# Altium schematic symbol library OKmeSchLibrary.SchLib: 194 symbols (part 1 of 2)
Pins are listed as number, name and electrical type; pins without a type are passive.

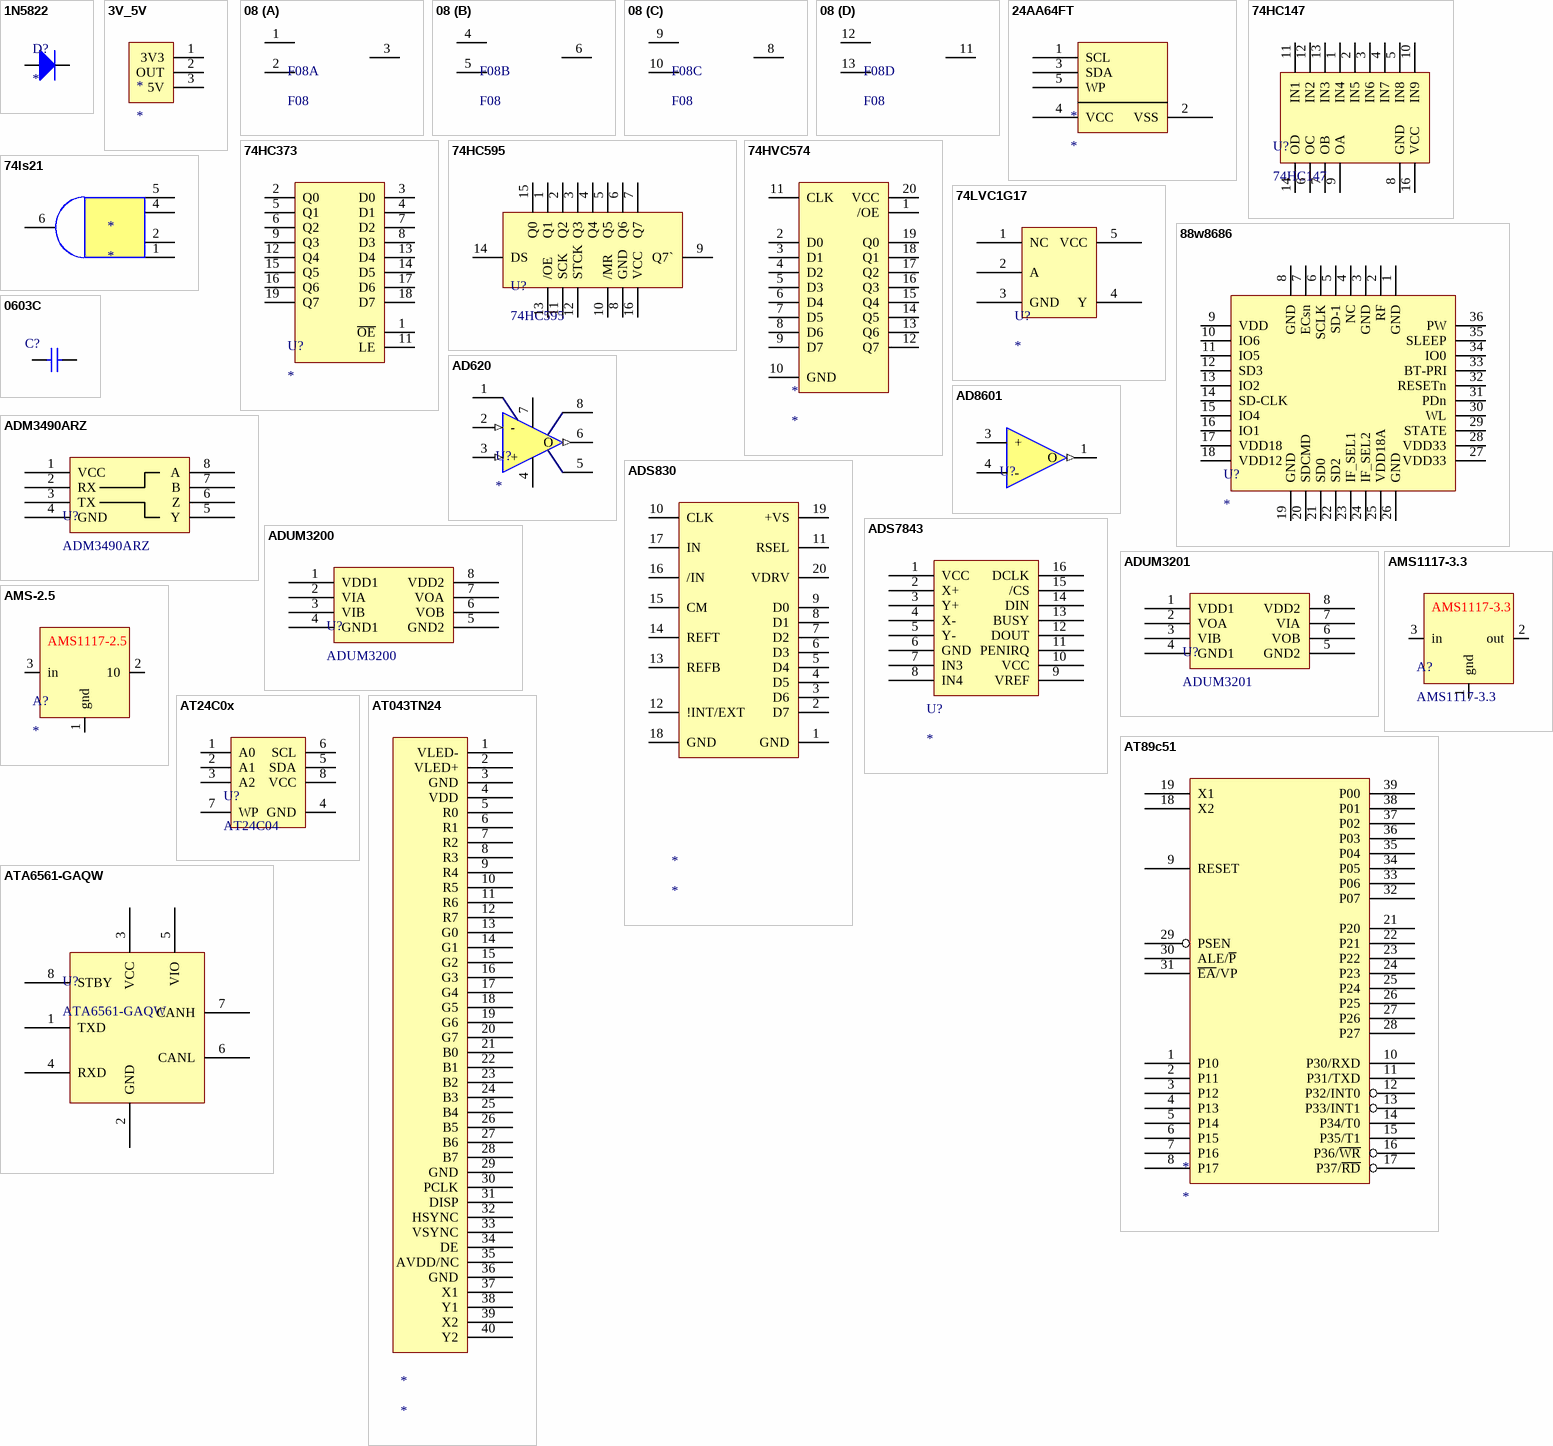
[diagram p0: symbols 1N5822 to ATA6561-GAQW]

## 1N5822
designator D?
footprint 1N5822
pins: 1 A, 2 K

## 3V_5V
designator *
footprint head*3
pins: 1 3V3, 2 OUT, 3 5V

## 08
designator F08, comment F08  (no BOM)
footprint 08
part A pins: 1, 2, 3, 7 hidden to GND, 14 hidden to VDD
part B pins: 4, 5, 6
part C pins: 8, 9, 10
part D pins: 11, 12, 13

## 24AA64FT
designator *
pins: 1 SCL, 2 VSS, 3 SDA, 4 VCC, 5 WP

## 74HC147
designator U?
footprint SOP-16
pins: 1 IN4, 2 IN5, 3 IN6, 4 IN7, 5 IN8, 6 OC, 7 OB, 8 GND, 9 OA, 10 IN9, 11 IN1, 12 IN2, 13 IN3, 14 OD, 15 NC hidden, 16 VCC

## 74HC373
designator U?
pins: 1 ~{OE}, 2 Q0, 3 D0, 4 D1, 5 Q1, 6 Q2, 7 D2, 8 D3, 9 Q3, 11 LE, 12 Q4, 13 D4, 14 D5, 15 Q5, 16 Q6, 17 D6, 18 D7, 19 Q7

## 74HC595
designator U?
footprint SOP-16
pins: 1 Q1, 2 Q2, 3 Q3, 4 Q4, 5 Q5, 6 Q6, 7 Q7, 8 GND, 9 Q7`, 10 /MR, 11 SCK, 12 STCK, 13 /OE, 14 DS, 15 Q0, 16 VCC

## 74HVC574
designator *
pins: 1 /OE, 2 D0, 3 D1, 4 D2, 5 D3, 6 D4, 7 D5, 8 D6, 9 D7, 10 GND, 11 CLK, 12 Q7, 13 Q6, 14 Q5, 15 Q4, 16 Q3, 17 Q2, 18 Q1, 19 Q0, 20 VCC

## 74ls21
designator *
pins: 1, 2, 4, 5, 6

## 74LVC1G17
designator U?
footprint SOT23-5
pins: 1 NC, 2 A, 3 GND, 4 Y, 5 VCC

## 88w8686
designator U?
footprint 88w8686
pins: 1 GND, 2 RF, 3 GND, 4 NC, 5 SD-1, 6 SCLK, 7 ECsn, 8 GND, 9 VDD, 10 IO6, 11 IO5, 12 SD3, 13 IO2, 14 SD-CLK, 15 IO4, 16 IO1, 17 VDD18, 18 VDD12, 19 GND, 20 SDCMD, 21 SD0, 22 SD2, 23 IF_SEL1, 24 IF_SEL2, 25 VDD18A, 26 GND, 27 VDD33, 28 VDD33, 29 STATE, 30 WL, 31 PDn, 32 RESETn, 33 BT-PRI, 34 IO0, 35 SLEEP, 36 PW

## 0603C
designator C?  (value not drawn)
footprint 0603C
pins: 1, 2

## AD620
designator U?
pins: 1, 2 - (in), 3 + (in), 4, 5, 6 O (out), 7, 8

## AD8601
designator U?  (value not drawn)
footprint SP6201
pins: 1 O (out), 2 - hidden to GND, 3 +, 4 -, 5 V+ hidden to 4-20-3V3

## ADM3490ARZ
designator U?
pins: 1 VCC, 2 RX, 3 TX, 4 GND, 5 Y, 6 Z, 7 B, 8 A

## ADS830
designator *
pins: 1 GND, 2 D7, 3 D6, 4 D5, 5 D4, 6 D3, 7 D2, 8 D1, 9 D0, 10 CLK, 11 RSEL, 12 !INT/EXT, 13 REFB, 14 REFT, 15 CM, 16 /IN, 17 IN, 18 GND, 19 +VS, 20 VDRV

## ADS7843
designator U?
footprint XPT2046
pins: 1 VCC, 2 X+, 3 Y+, 4 X-, 5 Y-, 6 GND, 7 IN3, 8 IN4, 9 VREF, 10 VCC, 11 PENIRQ, 12 DOUT, 13 BUSY, 14 DIN, 15 /CS, 16 DCLK

## ADUM3200
designator U?
pins: 1 VDD1, 2 VIA, 3 VIB, 4 GND1, 5 GND2, 6 VOB, 7 VOA, 8 VDD2

## ADUM3201
designator U?
pins: 1 VDD1, 2 VOA, 3 VIB, 4 GND1, 5 GND2, 6 VOB, 7 VIA, 8 VDD2

## AMS1117-3.3
designator A?
电源芯片
footprint SOT223
pins: 1 gnd, 2 out, 3 in

## AMS-2.5
designator A?
footprint AMS
pins: 1 gnd, 2 10, 3 in
text: AMS1117-2.5

## AT24C0x
designator U?, comment AT24C04
footprint SOP-8
pins: 1 A0, 2 A1, 3 A2, 4 GND, 5 SDA, 6 SCL, 7 WP, 8 VCC

## AT043TN24
designator *
pins: 1 VLED-, 2 VLED+, 3 GND, 4 VDD, 5 R0, 6 R1, 7 R2, 8 R3, 9 R4, 10 R5, 11 R6, 12 R7, 13 G0, 14 G1, 15 G2, 16 G3, 17 G4, 18 G5, 19 G6, 20 G7, 21 B0, 22 B1, 23 B2, 24 B3, 25 B4, 26 B5, 27 B6, 28 B7, 29 GND, 30 PCLK, 31 DISP, 32 HSYNC, 33 VSYNC, 34 DE, 35 AVDD/NC, 36 GND, 37 X1, 38 Y1, 39 X2, 40 Y2

## AT89c51
designator *
pins: 1 P10, 2 P11, 3 P12, 4 P13, 5 P14, 6 P15, 7 P16, 8 P17, 9 RESET, 10 P30/RXD, 11 P31/TXD, 12 P32/INT0, 13 P33/INT1, 14 P34/T0, 15 P35/T1, 16 P36/~{WR}, 17 P37/~{RD}, 18 X2, 19 X1, 21 P20, 22 P21, 23 P22, 24 P23, 25 P24, 26 P25, 27 P26, 28 P27, 29 PSEN, 30 ALE/~{P}, 31 ~{EA}/VP, 32 P07, 33 P06, 34 P05, 35 P04, 36 P03, 37 P02, 38 P01, 39 P00

## ATA6561-GAQW
designator U?
pins: 1 TXD, 2 GND, 3 VCC, 4 RXD, 5 VIO, 6 CANL, 7 CANH, 8 STBY

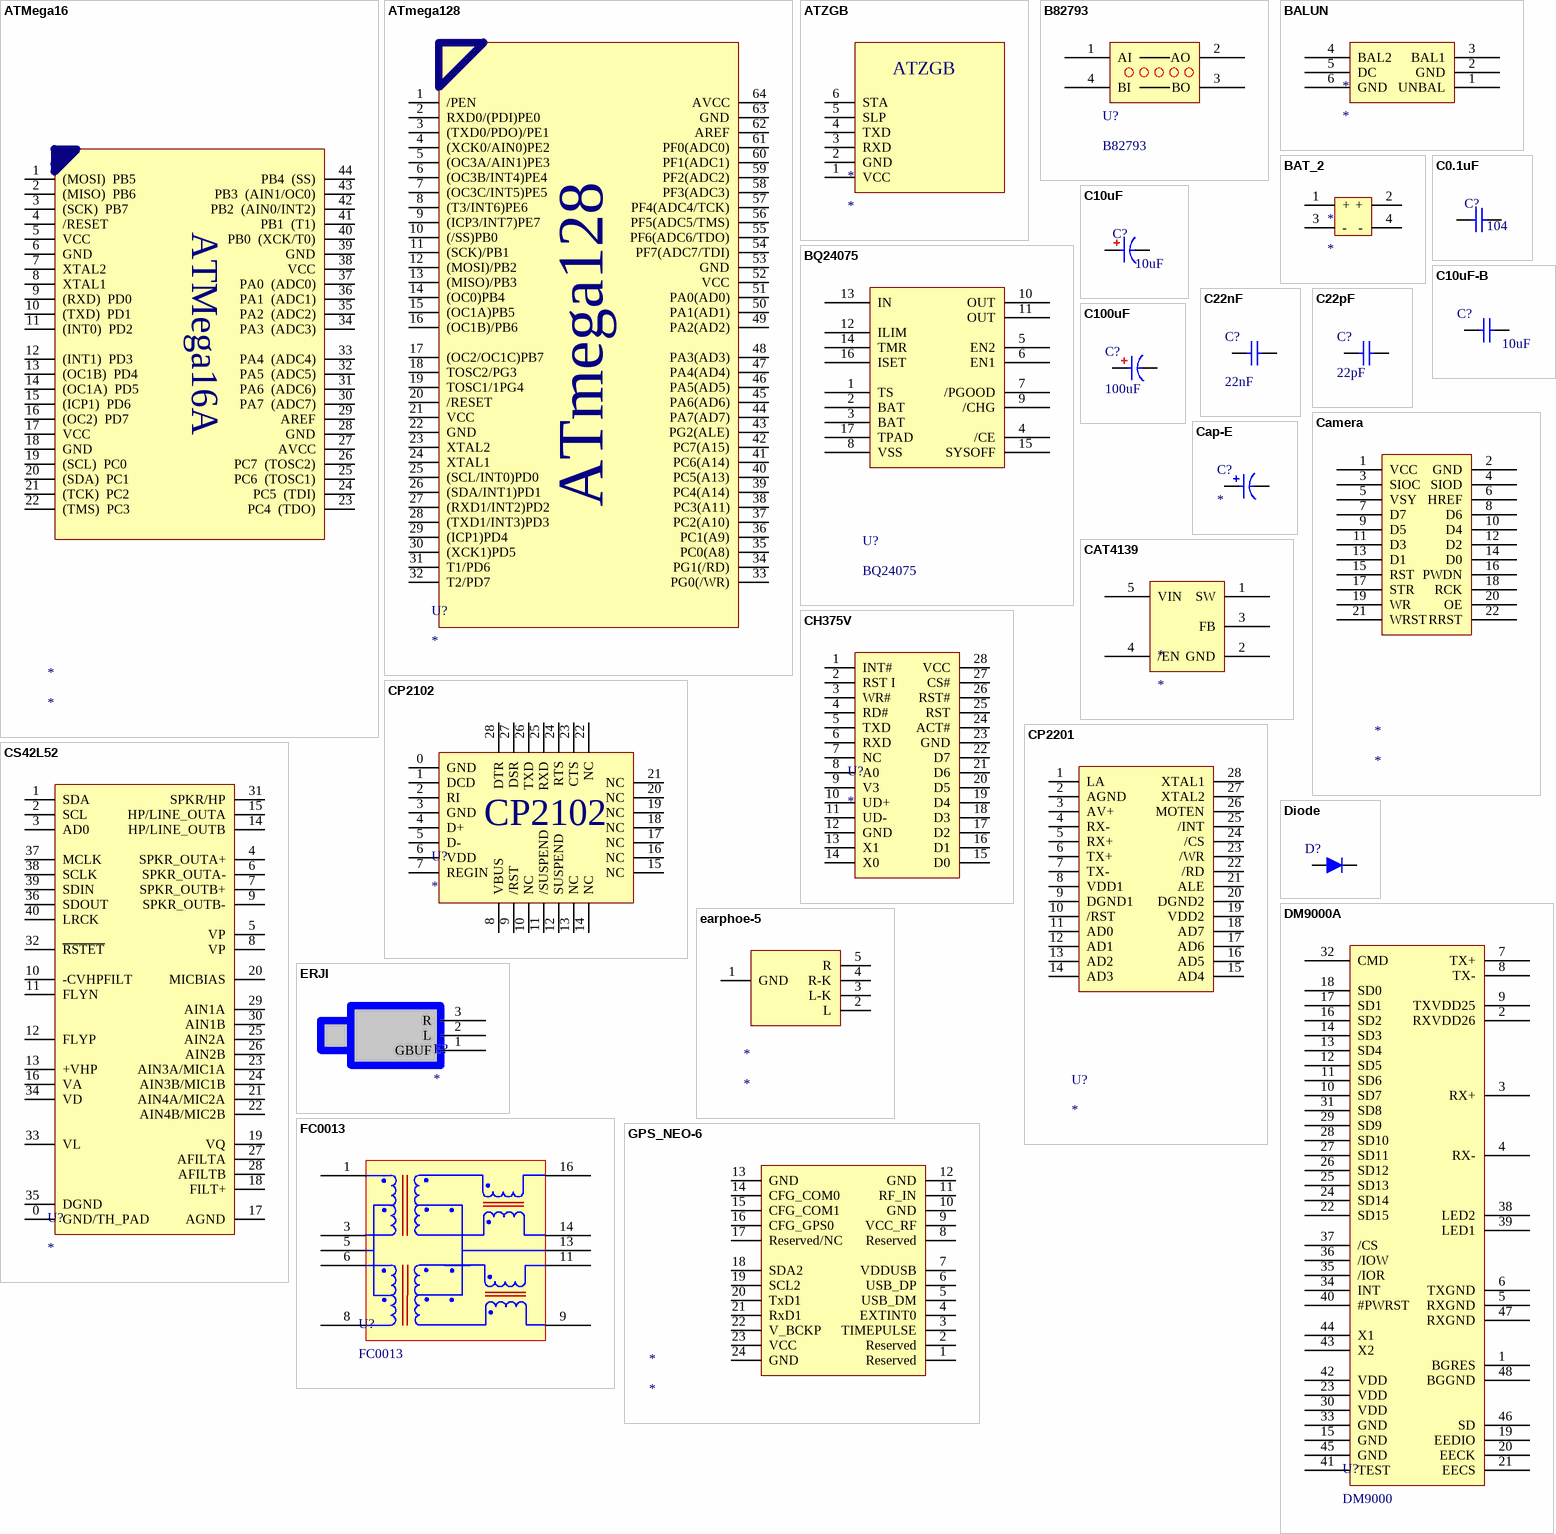
[diagram p1: symbols ATMega16 to GPS_NEO-6]

## ATMega16
designator *
footprint ATMega16
pins: 1 (MOSI)  PB5, 2 (MISO)  PB6, 3 (SCK)  PB7, 4 /RESET, 5 VCC, 6 GND, 7 XTAL2, 8 XTAL1, 9 (RXD)  PD0, 10 (TXD)  PD1, 11 (INT0)  PD2, 12 (INT1)  PD3, 13 (OC1B)  PD4, 14 (OC1A)  PD5, 15 (ICP1)  PD6, 16 (OC2)  PD7, 17 VCC, 18 GND, 19 (SCL)  PC0, 20 (SDA)  PC1, 21 (TCK)  PC2, 22 (TMS)  PC3, 23 PC4  (TDO), 24 PC5  (TDI), 25 PC6  (TOSC1), 26 PC7  (TOSC2), 27 AVCC, 28 GND, 29 AREF, 30 PA7  (ADC7), 31 PA6  (ADC6), 32 PA5  (ADC5), 33 PA4  (ADC4), 34 PA3  (ADC3), 35 PA2  (ADC2), 36 PA1  (ADC1), 37 PA0  (ADC0), 38 VCC, 39 GND, 40 PB0  (XCK/T0), 41 PB1  (T1), 42 PB2  (AIN0/INT2), 43 PB3  (AIN1/OC0), 44 PB4  (SS)
text: ATMega16A

## ATmega128
designator U?
footprint ATmega128 (Footprint not found)
pins: 1 /PEN, 2 RXD0/(PDI)PE0, 3 (TXD0/PDO)/PE1, 4 (XCK0/AIN0)PE2, 5 (OC3A/AIN1)PE3, 6 (OC3B/INT4)PE4, 7 (OC3C/INT5)PE5, 8 (T3/INT6)PE6, 9 (ICP3/INT7)PE7, 10 (/SS)PB0, 11 (SCK)/PB1, 12 (MOSI)/PB2, 13 (MISO)/PB3, 14 (OC0)PB4, 15 (OC1A)PB5, 16 (OC1B)/PB6, 17 (OC2/OC1C)PB7, 18 TOSC2/PG3, 19 TOSC1/1PG4, 20 /RESET, 21 VCC, 22 GND, 23 XTAL2, 24 XTAL1, 25 (SCL/INT0)PD0, 26 (SDA/INT1)PD1, 27 (RXD1/INT2)PD2, 28 (TXD1/INT3)PD3, 29 (ICP1)PD4, 30 (XCK1)PD5, 31 T1/PD6, 32 T2/PD7, 33 PG0(/WR), 34 PG1(/RD), 35 PC0(A8), 36 PC1(A9), 37 PC2(A10), 38 PC3(A11), 39 PC4(A14), 40 PC5(A13), 41 PC6(A14), 42 PC7(A15), 43 PG2(ALE), 44 PA7(AD7), 45 PA6(AD6), 46 PA5(AD5), 47 PA4(AD4), 48 PA3(AD3), 49 PA2(AD2), 50 PA1(AD1), 51 PA0(AD0), 52 VCC, 53 GND, 54 PF7(ADC7/TDI), 55 PF6(ADC6/TDO), 56 PF5(ADC5/TMS), 57 PF4(ADC4/TCK), 58 PF3(ADC3), 59 PF2(ADC2), 60 PF1(ADC1), 61 PF0(ADC0), 62 AREF, 63 GND, 64 AVCC

## ATZGB
designator *
pins: 1 VCC, 2 GND, 3 RXD, 4 TXD, 5 SLP, 6 STA

## B82793
designator U?
pins: 1 AI, 2 AO, 3 BO, 4 BI

## BALUN
designator *
pins: 1 UNBAL, 2 GND, 3 BAL1, 4 BAL2, 5 DC, 6 GND

## BAT_2
designator *
pins: 1 +, 2 +, 3 -, 4 -

## BQ24075
designator U?
footprint QFN16
pins: 1 TS, 2 BAT, 3 BAT, 4 /CE, 5 EN2, 6 EN1, 7 /PGOOD, 8 VSS, 9 /CHG, 10 OUT, 11 OUT, 12 ILIM, 13 IN, 14 TMR, 15 SYSOFF, 16 ISET, 17 TPAD

## C0.1uF
designator C?, comment C104  (value not drawn)
贴片电容
footprint 0603C
pins: 1, 2
text: 104

## C10uF
designator C?, comment 10uF
贴片电容
footprint CAP-T-3216
pins: 1, 2

## C10uF-B
designator C?  (value not drawn)
footprint 0603R
pins: 1, 2
text: 10uF

## C22nF
designator C?  (value not drawn)
footprint 0603R
pins: 1, 2
text: 22nF

## C22pF
designator C?  (value not drawn)
贴片电容
footprint 0603R
pins: 1, 2
text: 22pF

## C100uF
designator C?  (value not drawn)
贴片电容
footprint Cap-T
pins: 1, 2
text: 100uF

## Camera
designator *
footprint Camera
pins: 1 VCC, 2 GND, 3 SIOC, 4 SIOD, 5 VSY, 6 HREF, 7 D7, 8 D6, 9 D5, 10 D4, 11 D3, 12 D2, 13 D1, 14 D0, 15 RST, 16 PWDN, 17 STR, 18 RCK, 19 WR, 20 OE, 21 WRST, 22 RRST

## Cap-E
designator C?
footprint Cap-E
pins: 1, 2

## CAT4139
designator *
footprint SOT23-5
pins: 1 SW, 2 GND, 3 FB, 4 /EN, 5 VIN

## CH375V
designator U?
footprint SOP28 (Footprint not found)
pins: 1 INT#, 2 RST I, 3 WR#, 4 RD#, 5 TXD, 6 RXD, 7 NC, 8 A0, 9 V3, 10 UD+, 11 UD-, 12 GND, 13 X1, 14 X0, 15 D0, 16 D1, 17 D2, 18 D3, 19 D4, 20 D5, 21 D6, 22 D7, 23 GND, 24 ACT#, 25 RST, 26 RST#, 27 CS#, 28 VCC

## CP2102
designator U?
footprint CP2102
pins: 0 GND , 1 DCD, 2 RI, 3 GND, 4 D+, 5 D-, 6 VDD, 7 REGIN, 8 VBUS, 9 /RST, 10 NC, 11 /SUSPEND, 12 SUSPEND, 13 NC, 14 NC, 15 NC, 16 NC, 17 NC, 18 NC, 19 NC, 20 NC, 21 NC, 22 NC, 23 CTS, 24 RTS, 25 RXD, 26 TXD, 27 DSR, 28 DTR

## CP2201
designator U?
footprint QFN28 (Footprint not found)
pins: 1 LA, 2 AGND, 3 AV+, 4 RX-, 5 RX+, 6 TX+, 7 TX-, 8 VDD1, 9 DGND1, 10 /RST, 11 AD0, 12 AD1, 13 AD2, 14 AD3, 15 AD4, 16 AD5, 17 AD6, 18 AD7, 19 VDD2, 20 DGND2, 21 ALE, 22 /RD, 23 /WR, 24 /CS, 25 /INT, 26 MOTEN, 27 XTAL2, 28 XTAL1

## CS42L52
designator U?
footprint QFN40 (Footprint not found)
pins: 0 GND/TH_PAD, 1 SDA, 2 SCL, 3 AD0, 4 SPKR_OUTA+, 5 VP, 6 SPKR_OUTA-, 7 SPKR_OUTB+, 8 VP, 9 SPKR_OUTB-, 10 -CVHPFILT, 11 FLYN, 12 FLYP, 13 +VHP, 14 HP/LINE_OUTB, 15 HP/LINE_OUTA, 16 VA, 17 AGND, 18 FILT+, 19 VQ, 20 MICBIAS, 21 AIN4A/MIC2A, 22 AIN4B/MIC2B, 23 AIN3A/MIC1A, 24 AIN3B/MIC1B, 25 AIN2A, 26 AIN2B, 27 AFILTA, 28 AFILTB, 29 AIN1A, 30 AIN1B, 31 SPKR/HP, 32 ~{RSTET}, 33 VL, 34 VD, 35 DGND, 36 SDOUT, 37 MCLK, 38 SCLK, 39 SDIN, 40 LRCK

## Diode
designator D?  (value not drawn)
footprint 0805 - D
pins: 1 A, 2 K

## DM9000A
designator U?, comment DM9000
pins: 1 BGRES, 2 RXVDD26, 3 RX+, 4 RX-, 5 RXGND, 6 TXGND, 7 TX+, 8 TX-, 9 TXVDD25, 10 SD7, 11 SD6, 12 SD5, 13 SD4, 14 SD3, 15 GND, 16 SD2, 17 SD1, 18 SD0, 19 EEDIO, 20 EECK, 21 EECS, 22 SD15, 23 VDD, 24 SD14, 25 SD13, 26 SD12, 27 SD11, 28 SD10, 29 SD9, 30 VDD, 31 SD8, 32 CMD, 33 GND, 34 INT, 35 /IOR, 36 /IOW, 37 /CS, 38 LED2, 39 LED1, 40 #PWRST, 41 TEST, 42 VDD, 43 X2, 44 X1, 45 GND, 46 SD, 47 RXGND, 48 BGGND
1 alternate drawing of the same symbol

## earphoe-5
designator *
footprint earhpone
pins: 1 GND, 2 L, 3 L-K, 4 R-K, 5 R

## ERJI
designator E?
footprint EARPHONE
pins: 1 GBUF, 2 L, 3 R

## FC0013
designator U?
footprint SOP16 (Footprint not found)
pins: 1 0, 3 1, 5 3, 6 4, 8 5, 9 19, 11 18, 13 3, 14 17, 16

## GPS_NEO-6
designator *
footprint GPS_NE0 (Footprint not found)
pins: 1 Reserved, 2 Reserved, 3 TIMEPULSE, 4 EXTINT0, 5 USB_DM, 6 USB_DP, 7 VDDUSB, 8 Reserved, 9 VCC_RF, 10 GND, 11 RF_IN, 12 GND, 13 GND, 14 CFG_COM0, 15 CFG_COM1, 16 CFG_GPS0, 17 Reserved/NC, 18 SDA2, 19 SCL2, 20 TxD1, 21 RxD1, 22 V_BCKP, 23 VCC, 24 GND

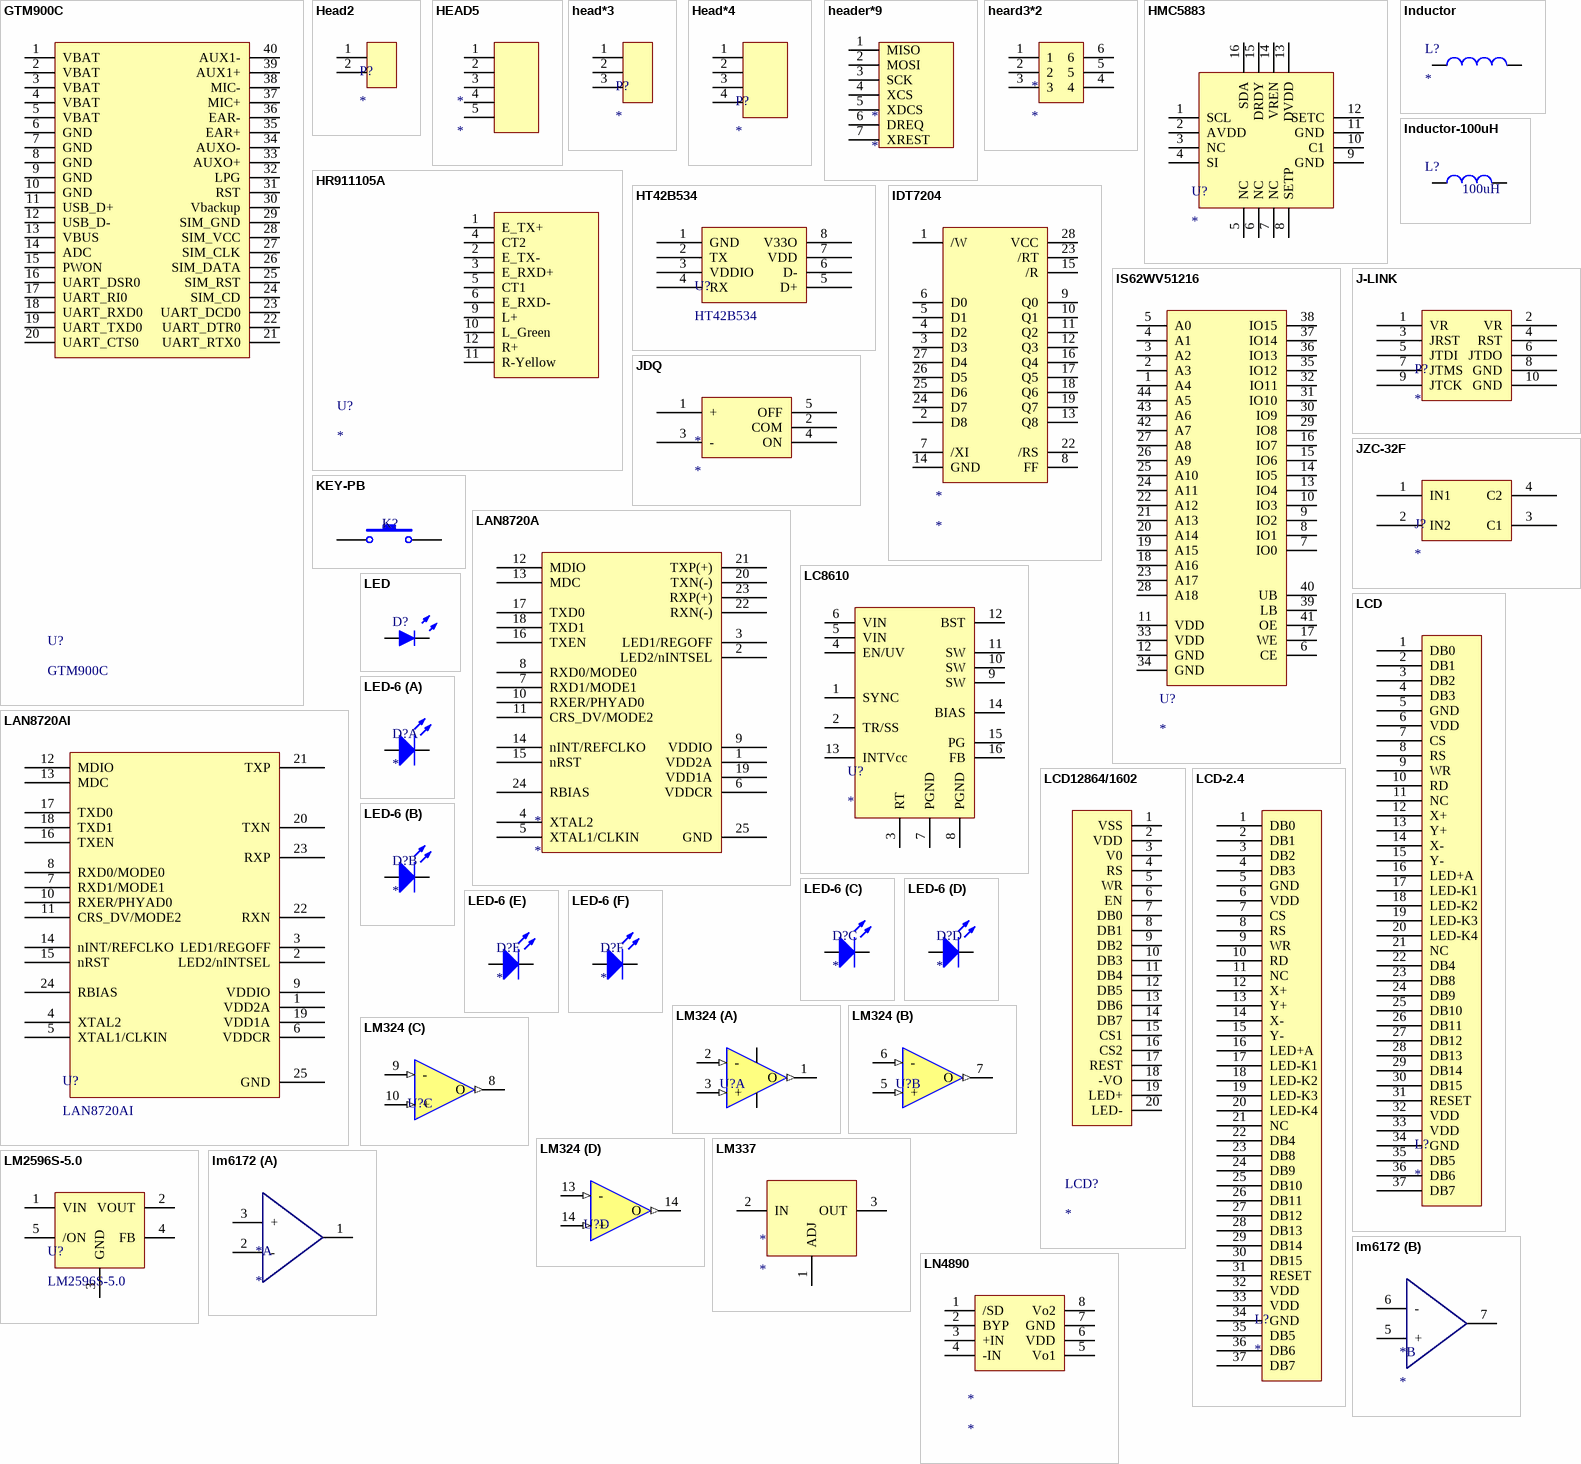
[diagram p2: symbols GTM900C to LN4890]

## GTM900C
designator U?
footprint GTM900C (Footprint not found)
pins: 1 VBAT, 2 VBAT, 3 VBAT, 4 VBAT, 5 VBAT, 6 GND, 7 GND, 8 GND, 9 GND, 10 GND, 11 USB_D+, 12 USB_D-, 13 VBUS, 14 ADC, 15 PWON, 16 UART_DSR0, 17 UART_RI0, 18 UART_RXD0, 19 UART_TXD0, 20 UART_CTS0, 21 UART_RTX0, 22 UART_DTR0, 23 UART_DCD0, 24 SIM_CD, 25 SIM_RST, 26 SIM_DATA, 27 SIM_CLK, 28 SIM_VCC, 29 SIM_GND, 30 Vbackup, 31 RST, 32 LPG, 33 AUXO+, 34 AUXO-, 35 EAR+, 36 EAR-, 37 MIC+, 38 MIC-, 39 AUX1+, 40 AUX1-

## Head2
designator P?
footprint HEAD2
pins: 1, 2

## HEAD5
designator *
pins: 1, 2, 3, 4, 5

## head*3
designator P?
footprint head*3 - duplicate
pins: 1, 2, 3

## Head*4
designator P?
footprint HEAD*4
pins: 1, 2, 3, 4

## header*9
designator *
footprint Header*7
pins: 1 MISO, 2 MOSI, 3 SCK, 4 XCS, 5 XDCS, 6 DREQ, 7 XREST

## heard3*2
designator *
pins: 1, 2, 3, 4, 5, 6

## HMC5883
designator U?
pins: 1 SCL, 2 AVDD, 3 NC, 4 SI, 5 NC, 6 NC, 7 NC, 8 SETP, 9 GND, 10 C1, 11 GND, 12 SETC, 13 DVDD, 14 VREN, 15 DRDY, 16 SDA

## HR911105A
designator U?
footprint HR9111105A (Footprint not found)
pins: 1 E_TX+, 2 E_TX-, 3 E_RXD+, 4 CT2, 5 CT1, 6 E_RXD-, 7 hidden, 8 hidden, 9 L+, 10 L_Green, 11 R-Yellow, 12 R+

## HT42B534
designator U?
footprint SOP-8
pins: 1 GND, 2 TX, 3 VDDIO, 4 RX, 5 D+, 6 D-, 7 VDD, 8 V33O

## IDT7204
designator *
pins: 1 /W, 2 D8, 3 D3, 4 D2, 5 D1, 6 D0, 7 /XI, 8 FF, 9 Q0, 10 Q1, 11 Q2, 12 Q3, 13 Q8, 14 GND, 15 /R, 16 Q4, 17 Q5, 18 Q6, 19 Q7, 22 /RS, 23 /RT, 24 D7, 25 D6, 26 D5, 27 D4, 28 VCC

## Inductor
designator L?
footprint 0805
pins: 1, 2

## Inductor-100uH
designator L?  (value not drawn)
footprint 0805
pins: 1, 2
text: 100uH

## IS62WV51216
designator U?
pins: 1 A4, 2 A3, 3 A2, 4 A1, 5 A0, 6 CE, 7 IO0, 8 IO1, 9 IO2, 10 IO3, 11 VDD, 12 GND, 13 IO4, 14 IO5, 15 IO6, 16 IO7, 17 WE, 18 A16, 19 A15, 20 A14, 21 A13, 22 A12, 23 A17, 24 A11, 25 A10, 26 A9, 27 A8, 28 A18, 29 IO8, 30 IO9, 31 IO10, 32 IO11, 33 VDD, 34 GND, 35 IO12, 36 IO13, 37 IO14, 38 IO15, 39 LB, 40 UB, 41 OE, 42 A7, 43 A6, 44 A5

## J-LINK
designator P?
footprint MINI JTAG
pins: 1 VR, 2 VR, 3 JRST, 4 RST, 5 JTDI, 6 JTDO, 7 JTMS, 8 GND, 9 JTCK, 10 GND

## JDQ
designator *
pins: 1 +, 2 COM, 3 -, 4 ON, 5 OFF

## JZC-32F
designator J?
footprint JZC-32F
pins: 1 IN1, 2 IN2, 3 C1, 4 C2

## KEY-PB
designator K?  (value not drawn)
footprint KEY-Q
pins: 1, 2

## LAN8720A
designator *
pins: 1 VDD2A, 2 LED2/nINTSEL, 3 LED1/REGOFF, 4 XTAL2, 5 XTAL1/CLKIN, 6 VDDCR, 7 RXD1/MODE1, 8 RXD0/MODE0, 9 VDDIO, 10 RXER/PHYAD0, 11 CRS_DV/MODE2, 12 MDIO, 13 MDC, 14 nINT/REFCLKO, 15 nRST, 16 TXEN, 17 TXD0, 18 TXD1, 19 VDD1A, 20 TXN(-), 21 TXP(+), 22 RXN(-), 23 RXP(+), 24 RBIAS, 25 GND

## LAN8720AI
designator U?
pins: 1 VDD2A, 2 LED2/nINTSEL, 3 LED1/REGOFF, 4 XTAL2, 5 XTAL1/CLKIN, 6 VDDCR, 7 RXD1/MODE1, 8 RXD0/MODE0, 9 VDDIO, 10 RXER/PHYAD0, 11 CRS_DV/MODE2, 12 MDIO, 13 MDC, 14 nINT/REFCLKO, 15 nRST, 16 TXEN, 17 TXD0, 18 TXD1, 19 VDD1A, 20 TXN, 21 TXP, 22 RXN, 23 RXP, 24 RBIAS, 25 GND

## LC8610
designator U?
footprint M-SOP16 (Footprint not found)
pins: 1 SYNC, 2 TR/SS, 3 RT, 4 EN/UV, 5 VIN, 6 VIN, 7 PGND, 8 PGND, 9 SW, 10 SW, 11 SW, 12 BST, 13 INTVcc, 14 BIAS, 15 PG, 16 FB, 17 hidden to GND

## LCD
designator L?
footprint LCD
pins: 1 DB0, 2 DB1, 3 DB2, 4 DB3, 5 GND, 6 VDD, 7 CS, 8 RS, 9 WR, 10 RD, 11 NC, 12 X+, 13 Y+, 14 X-, 15 Y-, 16 LED+A, 17 LED-K1, 18 LED-K2, 19 LED-K3, 20 LED-K4, 21 NC, 22 DB4, 23 DB8, 24 DB9, 25 DB10, 26 DB11, 27 DB12, 28 DB13, 29 DB14, 30 DB15, 31 RESET, 32 VDD, 33 VDD, 34 GND, 35 DB5, 36 DB6, 37 DB7

## LCD12864/1602
designator LCD?
footprint head*20
pins: 1 VSS, 2 VDD, 3 V0, 4 RS, 5 WR, 6 EN, 7 DB0, 8 DB1, 9 DB2, 10 DB3, 11 DB4, 12 DB5, 13 DB6, 14 DB7, 15 CS1, 16 CS2, 17 REST, 18 -VO, 19 LED+, 20 LED-

## LCD-2.4
designator L?
footprint LCD-2.4
pins: 1 DB0, 2 DB1, 3 DB2, 4 DB3, 5 GND, 6 VDD, 7 CS, 8 RS, 9 WR, 10 RD, 11 NC, 12 X+, 13 Y+, 14 X-, 15 Y-, 16 LED+A, 17 LED-K1, 18 LED-K2, 19 LED-K3, 20 LED-K4, 21 NC, 22 DB4, 23 DB8, 24 DB9, 25 DB10, 26 DB11, 27 DB12, 28 DB13, 29 DB14, 30 DB15, 31 RESET, 32 VDD, 33 VDD, 34 GND, 35 DB5, 36 DB6, 37 DB7

## LED
designator D?  (value not drawn)
footprint LED
pins: 1 A, 2 K

## LED-6
designator D?
footprint LED-6
part A pins: 1 A, 2 K
part B pins: 3 A, 4
part C pins: 5 A, 6 K
part D pins: 7 A, 8 K
part E pins: 9 A, 10 K
part F pins: 11 A, 12 K

## LM324
designator U?  (value not drawn)
footprint DIP16
part A pins: 1 O (out), 2 - (in), 3 + (in), 4 V+, 11 v-
part B pins: 5 + (in), 6 - (in), 7 O (out)
part C pins: 8 O (out), 9 - (in), 10 + (in)
part D pins: 13 - (in), 14 + (in), 14 O (out)

## LM337
designator *
pins: 1 ADJ, 2 IN, 3 OUT

## LM2596S-5.0
designator U?
pins: 1 VIN, 2 VOUT, 3 GND, 4 FB, 5 /ON

## lm6172
designator *
part A pins: 1, 2 -, 3 +, 4 hidden to -5, 8 hidden to +5
part B pins: 5 +, 6 -, 7

## LN4890
designator *
footprint MSOP8
pins: 1 /SD, 2 BYP, 3 +IN, 4 -IN, 5 Vo1, 6 VDD, 7 GND, 8 Vo2

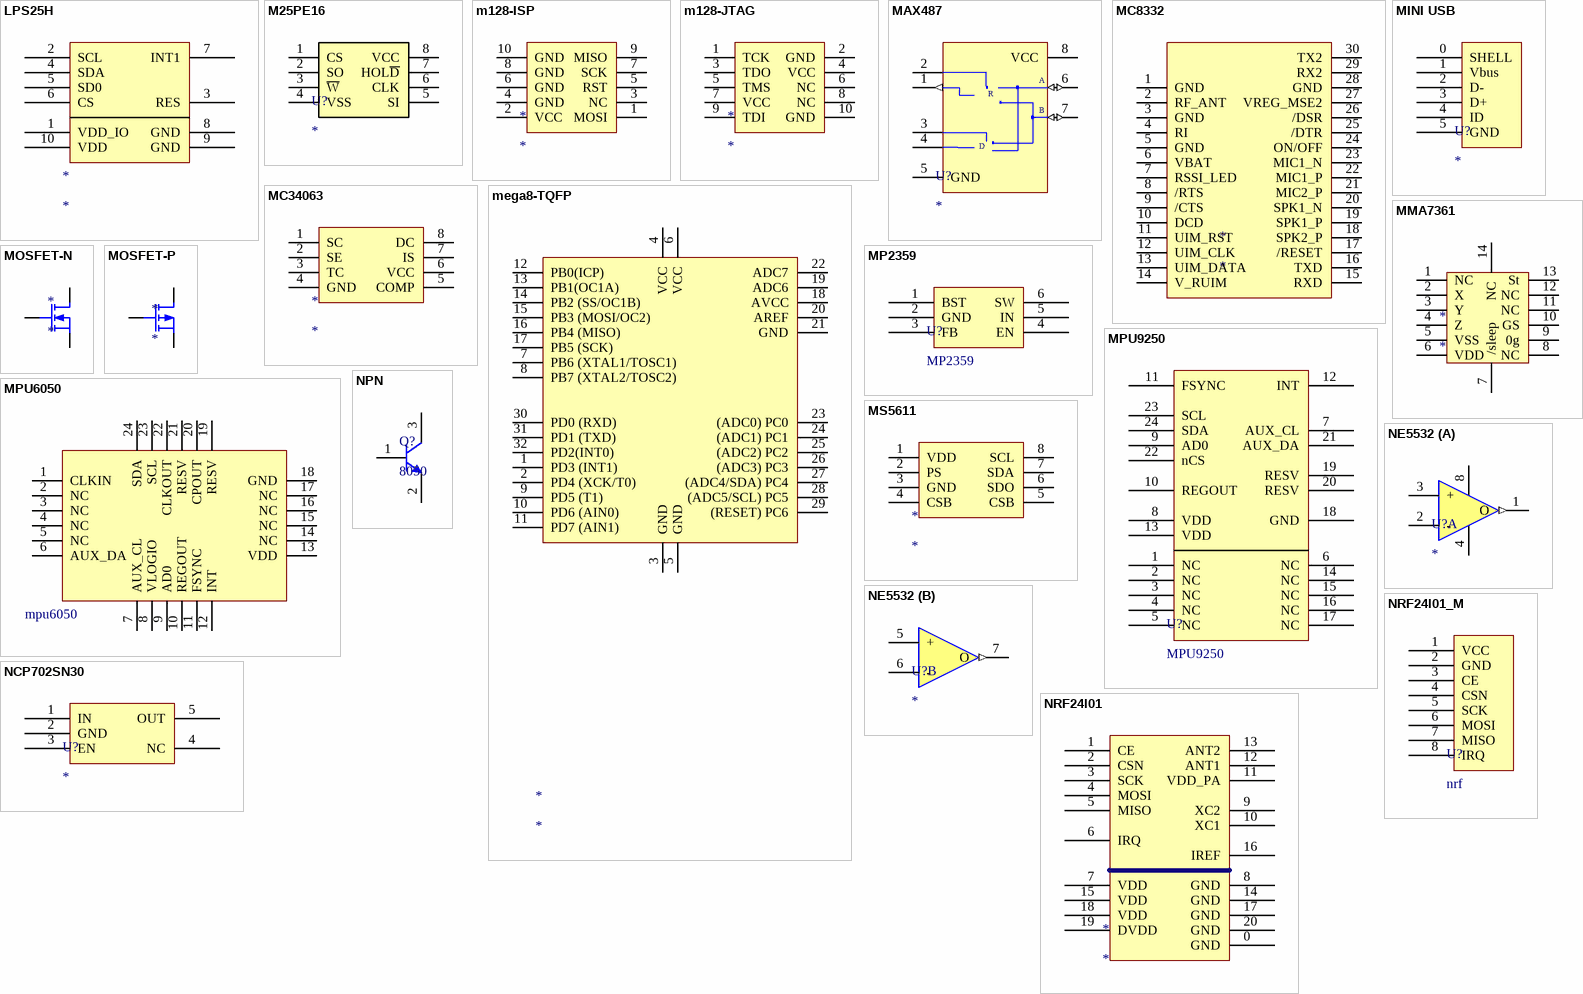
[diagram p3: symbols LPS25H to NRF24l01_M]

## LPS25H
designator *
pins: 1 VDD_IO, 2 SCL, 3 RES, 4 SDA, 5 SD0, 6 CS, 7 INT1, 8 GND, 9 GND, 10 VDD

## M25PE16
designator U?
footprint M25P16
pins: 1 CS, 2 SO, 3 ~{W}, 4 VSS (power), 5 SI, 6 CLK, 7 HOL~{D}, 8 VCC (power)

## m128-ISP
designator *
footprint m128-ISP
pins: 1 MOSI, 2 VCC, 3 NC, 4 GND, 5 RST, 6 GND, 7 SCK, 8 GND, 9 MISO, 10 GND

## m128-JTAG
designator *
pins: 1 TCK, 2 GND, 3 TDO, 4 VCC, 5 TMS, 6 NC, 7 VCC, 8 NC, 9 TDI, 10 GND

## MAX487
designator U?
footprint SOP-8
pins: 1 RO (out), 2 ~{RE}, 3 DE, 4 DI, 5 GND (power), 6 A (io), 7 B (io), 8 VCC (power)
text: R; D

## MC8332
designator *
footprint MC8332
pins: 1 GND, 2 RF_ANT, 3 GND, 4 RI, 5 GND, 6 VBAT, 7 RSSI_LED, 8 /RTS, 9 /CTS, 10 DCD, 11 UIM_RST, 12 UIM_CLK, 13 UIM_DATA, 14 V_RUIM, 15 RXD, 16 TXD, 17 /RESET, 18 SPK2_P, 19 SPK1_P, 20 SPK1_N, 21 MIC2_P, 22 MIC1_P, 23 MIC1_N, 24 ON/OFF, 25 /DTR, 26 /DSR, 27 VREG_MSE2, 28 GND, 29 RX2, 30 TX2

## MC34063
designator *
pins: 1 SC, 2 SE, 3 TC, 4 GND, 5 COMP, 6 VCC, 7 IS, 8 DC

## mega8-TQFP
designator *
footprint mega8
pins: 1 PD3 (INT1), 2 PD4 (XCK/T0), 3 GND, 4 VCC, 5 GND, 6 VCC, 7 PB6 (XTAL1/TOSC1), 8 PB7 (XTAL2/TOSC2), 9 PD5 (T1), 10 PD6 (AIN0), 11 PD7 (AIN1), 12 PB0(ICP), 13 PB1(OC1A), 14 PB2 (SS/OC1B), 15 PB3 (MOSI/OC2), 16 PB4 (MISO), 17 PB5 (SCK), 18 AVCC, 19 ADC6, 20 AREF, 21 GND, 22 ADC7, 23 (ADC0) PC0, 24 (ADC1) PC1, 25 (ADC2) PC2, 26 (ADC3) PC3, 27 (ADC4/SDA) PC4, 28 (ADC5/SCL) PC5, 29 (RESET) PC6, 30 PD0 (RXD), 31 PD1 (TXD), 32 PD2(INT0)

## MINI USB
designator U?
footprint MINI USB
pins: 0 SHELL, 1 Vbus (power), 2 D-, 3 D+, 4 ID, 5 GND (power)

## MMA7361
designator *
footprint MMA7316
pins: 1 NC, 2 X, 3 Y, 4 Z, 5 VSS, 6 VDD, 7 /sleep, 8 NC, 9 0g, 10 GS, 11 NC, 12 NC, 13 St, 14 NC

## MOSFET-N
designator *
pins: 1 D, 1 G, 3 S

## MOSFET-P
designator *
footprint SI2303
pins: 1 G, 2 S, 3 D

## MP2359
designator U?
footprint SOT23-6
pins: 1 BST, 2 GND, 3 FB, 4 EN, 5 IN, 6 SW

## MPU6050
designator ?, comment mpu6050
pins: 1 CLKIN, 2 NC, 3 NC, 4 NC, 5 NC, 6 AUX_DA, 7 AUX_CL, 8 VLOGIO, 9 AD0, 10 REGOUT, 11 FSYNC, 12 INT, 13 VDD, 14 NC, 15 NC, 16 NC, 17 NC, 18 GND, 19 RESV, 20 CPOUT, 21 RESV, 22 CLKOUT, 23 SCL, 24 SDA

## MPU9250
designator U?
footprint QFN24-1
pins: 1 NC, 2 NC, 3 NC, 4 NC, 5 NC, 6 NC, 7 AUX_CL, 8 VDD, 9 AD0, 10 REGOUT, 11 FSYNC, 12 INT, 13 VDD, 14 NC, 15 NC, 16 NC, 17 NC, 18 GND, 19 RESV, 20 RESV, 21 AUX_DA, 22 nCS, 23 SCL, 24 SDA

## MS5611
designator *
pins: 1 VDD, 2 PS, 3 GND, 4 CSB, 5 CSB, 6 SDO, 7 SDA, 8 SCL

## NCP702SN30
designator U?
footprint SOT23-5
pins: 1 IN, 2 GND, 3 EN, 4 NC, 5 OUT

## NE5532
designator U?
part A pins: 1 O (out), 2 -, 3 +, 4, 8
part B pins: 5 +, 6 -, 7 O (out)

## NPN
designator Q?, comment 8050
footprint SI2303
pins: 1 B, 2 E, 3 C

## NRF24l01
designator *
footprint QFN24-1
pins: 0 GND, 1 CE, 2 CSN, 3 SCK, 4 MOSI, 5 MISO, 6 IRQ, 7 VDD, 8 GND, 9 XC2, 10 XC1, 11 VDD_PA, 12 ANT1, 13 ANT2, 14 GND, 15 VDD, 16 IREF, 17 GND, 18 VDD, 19 DVDD, 20 GND

## NRF24l01_M
designator U?, comment nrf
pins: 1 VCC, 2 GND, 3 CE, 4 CSN, 5 SCK, 6 MOSI, 7 MISO, 8 IRQ

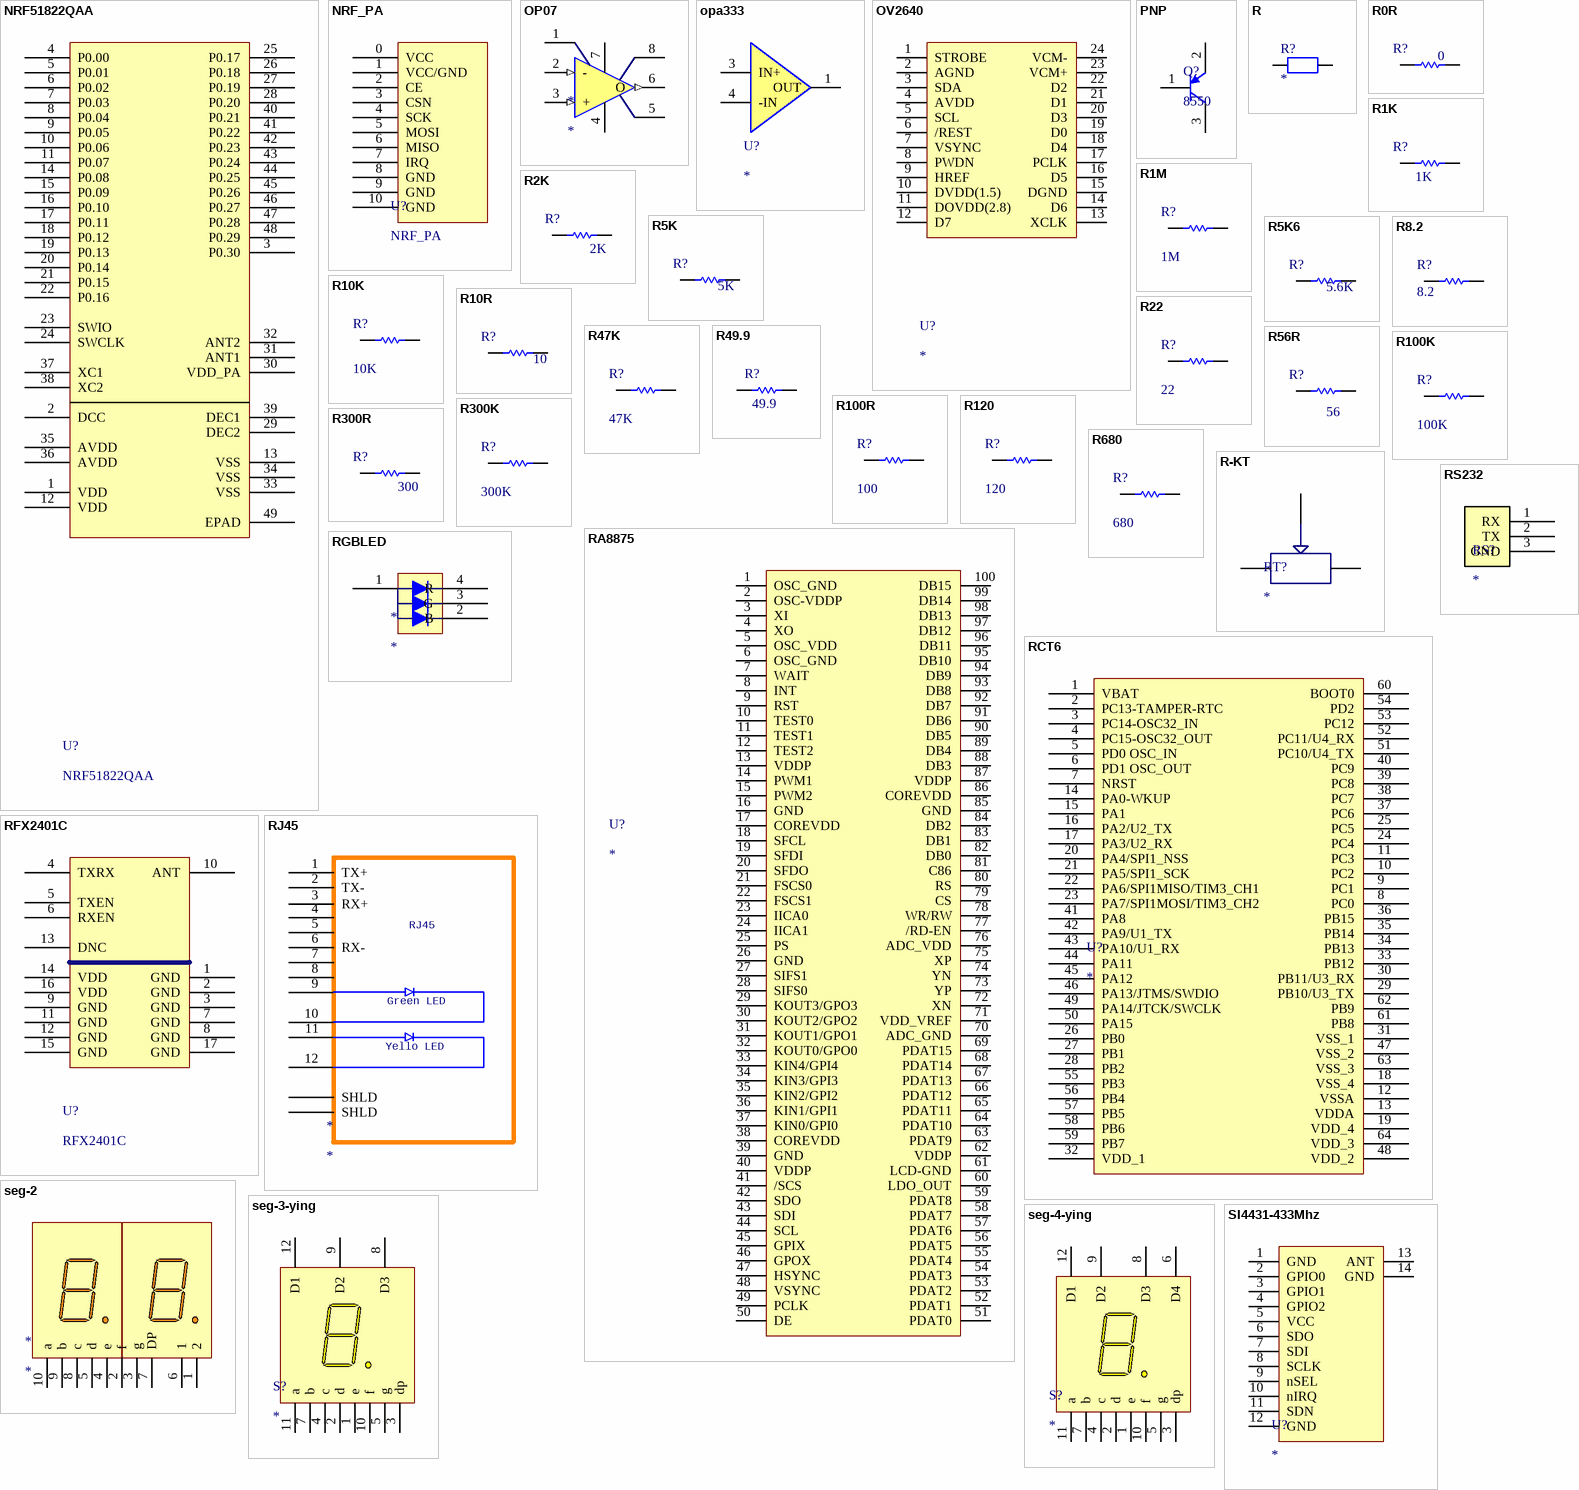
[diagram p4: symbols NRF51822QAA to SI4431-433Mhz]

## NRF51822QAA
designator U?
footprint QFN48 (Footprint not found)
pins: 1 VDD, 2 DCC, 3 P0.30, 4 P0.00, 5 P0.01, 6 P0.02, 7 P0.03, 8 P0.04, 9 P0.05, 10 P0.06, 11 P0.07, 12 VDD, 13 VSS, 14 P0.08, 15 P0.09, 16 P0.10, 17 P0.11, 18 P0.12, 19 P0.13, 20 P0.14, 21 P0.15, 22 P0.16, 23 SWIO, 24 SWCLK, 25 P0.17, 26 P0.18, 27 P0.19, 28 P0.20, 29 DEC2, 30 VDD_PA, 31 ANT1, 32 ANT2, 33 VSS, 34 VSS, 35 AVDD, 36 AVDD, 37 XC1, 38 XC2, 39 DEC1, 40 P0.21, 41 P0.22, 42 P0.23, 43 P0.24, 44 P0.25, 45 P0.26, 46 P0.27, 47 P0.28, 48 P0.29, 49 EPAD

## NRF_PA
designator U?
pins: 0 VCC, 1 VCC/GND, 2 CE, 3 CSN, 4 SCK, 5 MOSI, 6 MISO, 7 IRQ, 8 GND, 9 GND, 10 GND

## OP07
designator *
pins: 1, 2 - (in), 3 + (in), 4, 5, 6 O (out), 7, 8

## opa333
designator U?
footprint SP6201
pins: 1 OUT, 2 V- hidden to GND, 3 IN+, 4 -IN, 5 V+ hidden to VCC

## OV2640
designator U?
pins: 1 STROBE, 2 AGND, 3 SDA, 4 AVDD, 5 SCL, 6 /REST, 7 VSYNC, 8 PWDN, 9 HREF, 10 DVDD(1.5), 11 DOVDD(2.8), 12 D7, 13 XCLK, 14 D6, 15 DGND, 16 D5, 17 PCLK, 18 D4, 19 D0, 20 D3, 21 D1, 22 D2, 23 VCM+, 24 VCM-

## PNP
designator Q?, comment 8550
footprint SI2303
pins: 1 B, 2 E, 3 C

## R
designator R?
footprint 0603R
pins: 1, 2

## R0R
designator R?  (value not drawn)
footprint 0603R
pins: 1, 2
text: 0

## R1K
designator R?  (value not drawn)
footprint 0603R
pins: 1, 2
text: 1K

## R1M
designator R?  (value not drawn)
footprint 0603R
pins: 1, 2
text: 1M

## R2K
designator R?  (value not drawn)
footprint 0603R
pins: 1, 2
text: 2K

## R5K
designator R?  (value not drawn)
footprint 0603R
pins: 1, 2
text: 5K

## R5K6
designator R?  (value not drawn)
footprint 0603R
footprint 0603R
pins: 1, 2
text: 5.6K

## R8.2
designator R?  (value not drawn)
footprint 0603R
pins: 1, 2
text: 8.2

## R10K
designator R?  (value not drawn)
footprint 0603R
pins: 1, 2
text: 10K

## R10R
designator R?  (value not drawn)
footprint 0603R
pins: 1, 2
text: 10

## R22
designator R?  (value not drawn)
footprint 0603R
pins: 1, 2
text: 22

## R47K
designator R?  (value not drawn)
footprint 0603R
pins: 1, 2
text: 47K

## R49.9
designator R?  (value not drawn)
footprint 0603R
pins: 1, 2
text: 49.9

## R56R
designator R?  (value not drawn)
footprint 0603R
pins: 1, 2
text: 56

## R100K
designator R?  (value not drawn)
footprint 0603R
pins: 1, 2
text: 100K

## R100R
designator R?  (value not drawn)
footprint 0603R
pins: 1, 2
text: 100

## R120
designator R?  (value not drawn)
footprint 0603R
pins: 1, 2
text: 120

## R300K
designator R?  (value not drawn)
footprint 0603R
pins: 1, 2
text: 300K

## R300R
designator R?  (value not drawn)
footprint 0603R
pins: 1, 2
text: 300

## R680
designator R?  (value not drawn)
footprint 0603R
pins: 1, 2
text: 680

## R-KT
designator RT?
footprint R-KT
pins: 1, 2, 3

## RA8875
designator U?
footprint LQFP100
pins: 1 OSC_GND, 2 OSC-VDDP, 3 XI, 4 XO, 5 OSC_VDD, 6 OSC_GND, 7 WAIT, 8 INT, 9 RST, 10 TEST0, 11 TEST1, 12 TEST2, 13 VDDP, 14 PWM1, 15 PWM2, 16 GND, 17 COREVDD, 18 SFCL, 19 SFDI, 20 SFDO, 21 FSCS0, 22 FSCS1, 23 IICA0, 24 IICA1, 25 PS, 26 GND, 27 SIFS1, 28 SIFS0, 29 KOUT3/GPO3, 30 KOUT2/GPO2, 31 KOUT1/GPO1, 32 KOUT0/GPO0, 33 KIN4/GPI4, 34 KIN3/GPI3, 35 KIN2/GPI2, 36 KIN1/GPI1, 37 KIN0/GPI0, 38 COREVDD, 39 GND, 40 VDDP, 41 /SCS, 42 SDO, 43 SDI, 44 SCL, 45 GPIX, 46 GPOX, 47 HSYNC, 48 VSYNC, 49 PCLK, 50 DE, 51 PDAT0, 52 PDAT1, 53 PDAT2, 54 PDAT3, 55 PDAT4, 56 PDAT5, 57 PDAT6, 58 PDAT7, 59 PDAT8, 60 LDO_OUT, 61 LCD-GND, 62 VDDP, 63 PDAT9, 64 PDAT10, 65 PDAT11, 66 PDAT12, 67 PDAT13, 68 PDAT14, 69 PDAT15, 70 ADC_GND, 71 VDD_VREF, 72 XN, 73 YP, 74 YN, 75 XP, 76 ADC_VDD, 77 /RD-EN, 78 WR/RW, 79 CS, 80 RS, 81 C86, 82 DB0, 83 DB1, 84 DB2, 85 GND, 86 COREVDD, 87 VDDP, 88 DB3, 89 DB4, 90 DB5, 91 DB6, 92 DB7, 93 DB8, 94 DB9, 95 DB10, 96 DB11, 97 DB12, 98 DB13, 99 DB14, 100 DB15

## RCT6
designator U?
footprint LQFP64 - duplicate
pins: 1 VBAT, 2 PC13-TAMPER-RTC, 3 PC14-OSC32_IN, 4 PC15-OSC32_OUT, 5 PD0 OSC_IN, 6 PD1 OSC_OUT, 7 NRST, 8 PC0, 9 PC1, 10 PC2, 11 PC3, 12 VSSA, 13 VDDA, 14 PA0-WKUP, 15 PA1, 16 PA2/U2_TX, 17 PA3/U2_RX, 18 VSS_4, 19 VDD_4, 20 PA4/SPI1_NSS, 21 PA5/SPI1_SCK, 22 PA6/SPI1MISO/TIM3_CH1, 23 PA7/SPI1MOSI/TIM3_CH2, 24 PC4, 25 PC5, 26 PB0, 27 PB1, 28 PB2, 29 PB10/U3_TX, 30 PB11/U3_RX, 31 VSS_1, 32 VDD_1, 33 PB12, 34 PB13, 35 PB14, 36 PB15, 37 PC6, 38 PC7, 39 PC8, 40 PC9, 41 PA8, 42 PA9/U1_TX, 43 PA10/U1_RX, 44 PA11, 45 PA12, 46 PA13/JTMS/SWDIO, 47 VSS_2, 48 VDD_2, 49 PA14/JTCK/SWCLK, 50 PA15, 51 PC10/U4_TX, 52 PC11/U4_RX, 53 PC12, 54 PD2, 55 PB3, 56 PB4, 57 PB5, 58 PB6, 59 PB7, 60 BOOT0, 61 PB8, 62 PB9, 63 VSS_3, 64 VDD_3

## RFX2401C
designator U?
footprint QFN16
pins: 1 GND, 2 GND, 3 GND, 4 TXRX, 5 TXEN, 6 RXEN, 7 GND, 8 GND, 9 GND, 10 ANT, 11 GND, 12 GND, 13 DNC, 14 VDD, 15 GND, 16 VDD, 17 GND

## RGBLED
designator *
pins: 1, 2 B, 3 G, 4 R

## RJ45
designator *
pins: 1 TX+, 2 TX-, 3 RX+, 4, 5, 6 RX-, 7, 8, 9, 10, 11, 12, 13 SHLD, 13 SHLD
text: Green LED; Yello LED

## RS232
designator RS?
pins: 1 RX, 2 TX, 3 GND

## seg-2
designator *
pins: 1 2 "Anode", 2 f "Cathode", 3 g "Cathode", 4 e "Cathode", 5 d "Cathode", 6 1 "Anode", 7 DP "Cathode", 8 c "Cathode", 9 b "Cathode", 10 a "Cathode"

## seg-3-ying
designator S?
pins: 1 e, 2 d, 3 dp, 4 c, 5 g, 6 hidden, 7 b, 8 D3, 9 D2, 10 f, 11 a, 12 D1

## seg-4-ying
designator S?
pins: 1 e, 2 d, 3 dp, 4 c, 5 g, 6 D4, 7 b, 8 D3, 9 D2, 10 f, 11 a, 12 D1

## SI4431-433Mhz
designator U?
footprint SI4431
pins: 1 GND, 2 GPIO0, 3 GPIO1, 4 GPIO2, 5 VCC, 6 SDO, 7 SDI, 8 SCLK, 9 nSEL, 10 nIRQ, 11 SDN, 12 GND, 13 ANT, 14 GND

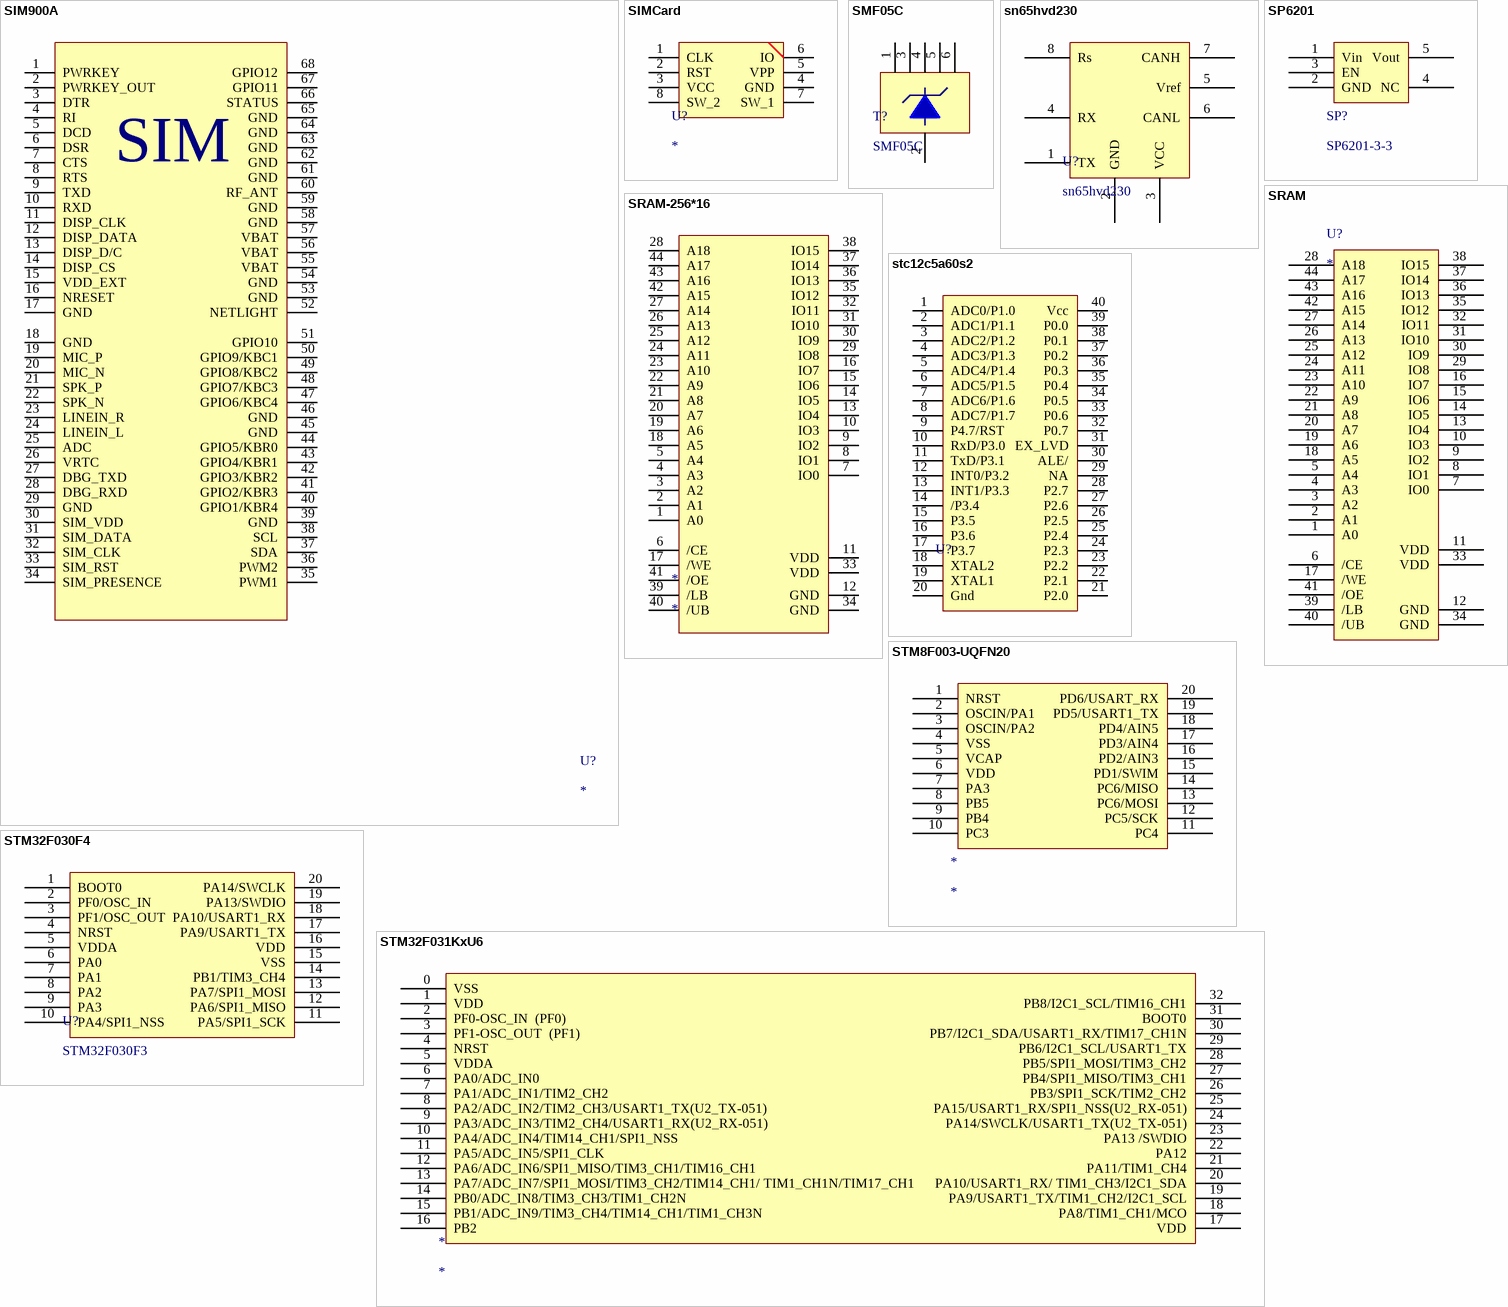
[diagram p5: symbols SIM900A to STM32F031KxU6]

## SIM900A
designator U?
footprint SIM900A
pins: 1 PWRKEY, 2 PWRKEY_OUT, 3 DTR, 4 RI, 5 DCD, 6 DSR, 7 CTS, 8 RTS, 9 TXD, 10 RXD, 11 DISP_CLK, 12 DISP_DATA, 13 DISP_D/C, 14 DISP_CS, 15 VDD_EXT, 16 NRESET, 17 GND, 18 GND, 19 MIC_P, 20 MIC_N, 21 SPK_P, 22 SPK_N, 23 LINEIN_R, 24 LINEIN_L, 25 ADC, 26 VRTC, 27 DBG_TXD, 28 DBG_RXD, 29 GND, 30 SIM_VDD, 31 SIM_DATA, 32 SIM_CLK, 33 SIM_RST, 34 SIM_PRESENCE, 35 PWM1, 36 PWM2, 37 SDA, 38 SCL, 39 GND, 40 GPIO1/KBR4, 41 GPIO2/KBR3, 42 GPIO3/KBR2, 43 GPIO4/KBR1, 44 GPIO5/KBR0, 45 GND, 46 GND, 47 GPIO6/KBC4, 48 GPIO7/KBC3, 49 GPIO8/KBC2, 50 GPIO9/KBC1, 51 GPIO10, 52 NETLIGHT, 53 GND, 54 GND, 55 VBAT, 56 VBAT, 57 VBAT, 58 GND, 59 GND, 60 RF_ANT, 61 GND, 62 GND, 63 GND, 64 GND, 65 GND, 66 STATUS, 67 GPIO11, 68 GPIO12
text: SIM

## SIMCard
designator U?
footprint SIM
pins: 1 CLK, 2 RST, 3 VCC, 4 GND, 5 VPP, 6 IO, 7 SW_1, 8 SW_2

## SMF05C
designator T?
footprint SC70-6L (Footprint not found)
pins: 1, 2, 3, 4, 5, 6

## sn65hvd230
designator U?
footprint SOP-8
pins: 1 TX, 2 GND, 3 VCC, 4 RX, 5 Vref, 6 CANL, 7 CANH, 8 Rs

## SP6201
designator SP?, comment SP6201-3-3
footprint SOT23-5
3D model SOT-23-5 (PCB3D Model)
pins: 1 Vin (power), 2 GND (power), 3 EN, 4 NC, 5 Vout (power)

## SRAM
designator U?
footprint SRAM
pins: 1 A0, 2 A1, 3 A2, 4 A3, 5 A4, 6 /CE, 7 IO0, 8 IO1, 9 IO2, 10 IO3, 11 VDD, 12 GND, 13 IO4, 14 IO5, 15 IO6, 16 IO7, 17 /WE, 18 A5, 19 A6, 20 A7, 21 A8, 22 A9, 23 A10, 24 A11, 25 A12, 26 A13, 27 A14, 28 A18, 29 IO8, 30 IO9, 31 IO10, 32 IO11, 33 VDD, 34 GND, 35 IO12, 36 IO13, 37 IO14, 38 IO15, 39 /LB, 40 /UB, 41 /OE, 42 A15, 43 A16, 44 A17

## SRAM-256*16
designator *
footprint SRAM
pins: 1 A0, 2 A1, 3 A2, 4 A3, 5 A4, 6 /CE, 7 IO0, 8 IO1, 9 IO2, 10 IO3, 11 VDD, 12 GND, 13 IO4, 14 IO5, 15 IO6, 16 IO7, 17 /WE, 18 A5, 19 A6, 20 A7, 21 A8, 22 A9, 23 A10, 24 A11, 25 A12, 26 A13, 27 A14, 28 A18, 29 IO8, 30 IO9, 31 IO10, 32 IO11, 33 VDD, 34 GND, 35 IO12, 36 IO13, 37 IO14, 38 IO15, 39 /LB, 40 /UB, 41 /OE, 42 A15, 43 A16, 44 A17

## stc12c5a60s2
designator U?  (value not drawn)
pins: 1 ADC0/P1.0, 2 ADC1/P1.1, 3 ADC2/P1.2, 4 ADC3/P1.3, 5 ADC4/P1.4, 6 ADC5/P1.5, 7 ADC6/P1.6, 8 ADC7/P1.7, 9 P4.7/RST, 10 RxD/P3.0, 11 TxD/P3.1, 12 INT0/P3.2, 13 INT1/P3.3, 14 /P3.4, 15 P3.5, 16 P3.6, 17 P3.7, 18 XTAL2, 19 XTAL1, 20 Gnd, 21 P2.0, 22 P2.1, 23 P2.2, 24 P2.3, 25 P2.4, 26 P2.5, 27 P2.6, 28 P2.7, 29 NA, 30 ALE/, 31 EX_LVD, 32 P0.7, 33 P0.6, 34 P0.5, 35 P0.4, 36 P0.3, 37 P0.2, 38 P0.1, 39 P0.0, 40 Vcc

## STM8F003-UQFN20
designator *
footprint QFN20 (Footprint not found)
pins: 1 NRST, 2 OSCIN/PA1, 3 OSCIN/PA2, 4 VSS, 5 VCAP, 6 VDD, 7 PA3, 8 PB5, 9 PB4, 10 PC3, 11 PC4, 12 PC5/SCK, 13 PC6/MOSI, 14 PC6/MISO, 15 PD1/SWIM, 16 PD2/AIN3, 17 PD3/AIN4, 18 PD4/AIN5, 19 PD5/USART1_TX, 20 PD6/USART_RX

## STM32F030F4
designator U?, comment STM32F030F3
footprint TSSOP20 (Footprint not found)
pins: 1 BOOT0, 2 PF0/OSC_IN, 3 PF1/OSC_OUT, 4 NRST, 5 VDDA, 6 PA0, 7 PA1, 8 PA2, 9 PA3, 10 PA4/SPI1_NSS, 11 PA5/SPI1_SCK, 12 PA6/SPI1_MISO, 13 PA7/SPI1_MOSI, 14 PB1/TIM3_CH4, 15 VSS, 16 VDD, 17 PA9/USART1_TX, 18 PA10/USART1_RX, 19 PA13/SWDIO, 20 PA14/SWCLK

## STM32F031KxU6
designator *
pins: 0 VSS, 1 VDD, 2 PF0-OSC_IN  (PF0), 3 PF1-OSC_OUT  (PF1), 4 NRST, 5 VDDA, 6 PA0/ADC_IN0, 7 PA1/ADC_IN1/TIM2_CH2, 8 PA2/ADC_IN2/TIM2_CH3/USART1_TX(U2_TX-051), 9 PA3/ADC_IN3/TIM2_CH4/USART1_RX(U2_RX-051), 10 PA4/ADC_IN4/TIM14_CH1/SPI1_NSS, 11 PA5/ADC_IN5/SPI1_CLK, 12 PA6/ADC_IN6/SPI1_MISO/TIM3_CH1/TIM16_CH1, 13 PA7/ADC_IN7/SPI1_MOSI/TIM3_CH2/TIM14_CH1/ TIM1_CH1N/TIM17_CH1, 14 PB0/ADC_IN8/TIM3_CH3/TIM1_CH2N, 15 PB1/ADC_IN9/TIM3_CH4/TIM14_CH1/TIM1_CH3N, 16 PB2, 17 VDD, 18 PA8/TIM1_CH1/MCO, 19 PA9/USART1_TX/TIM1_CH2/I2C1_SCL, 20 PA10/USART1_RX/ TIM1_CH3/I2C1_SDA, 21 PA11/TIM1_CH4, 22 PA12, 23 PA13 /SWDIO, 24 PA14/SWCLK/USART1_TX(U2_TX-051), 25 PA15/USART1_RX/SPI1_NSS(U2_RX-051), 26 PB3/SPI1_SCK/TIM2_CH2, 27 PB4/SPI1_MISO/TIM3_CH1, 28 PB5/SPI1_MOSI/TIM3_CH2, 29 PB6/I2C1_SCL/USART1_TX, 30 PB7/I2C1_SDA/USART1_RX/TIM17_CH1N, 31 BOOT0, 32 PB8/I2C1_SCL/TIM16_CH1

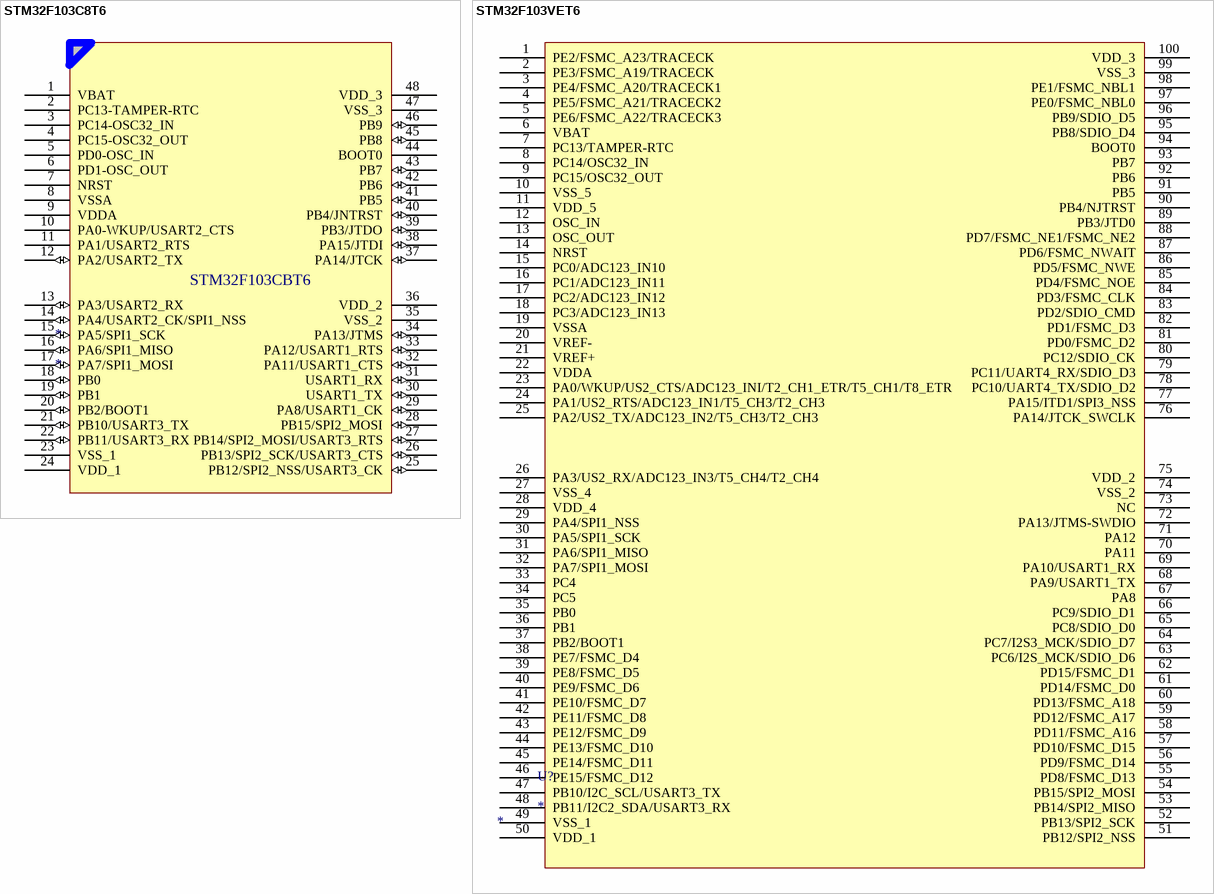
[diagram p6: symbols STM32F103C8T6 to STM32F103VET6]

## STM32F103C8T6
designator *
footprint STM32C8T6
pins: 1 VBAT (power), 2 PC13-TAMPER-RTC, 3 PC14-OSC32_IN, 4 PC15-OSC32_OUT, 5 PD0-OSC_IN, 6 PD1-OSC_OUT, 7 NRST, 8 VSSA (power), 9 VDDA (power), 10 PA0-WKUP/USART2_CTS, 11 PA1/USART2_RTS, 12 PA2/USART2_TX (io), 13 PA3/USART2_RX (io), 14 PA4/USART2_CK/SPI1_NSS (io), 15 PA5/SPI1_SCK (io), 16 PA6/SPI1_MISO (io), 17 PA7/SPI1_MOSI (io), 18 PB0 (io), 19 PB1 (io), 20 PB2/BOOT1 (io), 21 PB10/USART3_TX (io), 22 PB11/USART3_RX (io), 23 VSS_1 (power), 24 VDD_1 (power), 25 PB12/SPI2_NSS/USART3_CK (io), 26 PB13/SPI2_SCK/USART3_CTS (io), 27 PB14/SPI2_MOSI/USART3_RTS (io), 28 PB15/SPI2_MOSI (io), 29 PA8/USART1_CK (io), 30 USART1_TX (io), 31 USART1_RX (io), 32 PA11/USART1_CTS (io), 33 PA12/USART1_RTS (io), 34 PA13/JTMS (io), 35 VSS_2 (power), 36 VDD_2 (power), 37 PA14/JTCK (io), 38 PA15/JTDI (io), 39 PB3/JTDO (io), 40 PB4/JNTRST (io), 41 PB5 (io), 42 PB6 (io), 43 PB7 (io), 44 BOOT0, 45 PB8 (io), 46 PB9 (io), 47 VSS_3 (power), 48 VDD_3 (power)
text: STM32F103CBT6

## STM32F103VET6
designator U?
STM32F103VET6: *
footprint STM32F103ZET6
pins: 1 PE2/FSMC_A23/TRACECK, 2 PE3/FSMC_A19/TRACECK, 3 PE4/FSMC_A20/TRACECK1, 4 PE5/FSMC_A21/TRACECK2, 5 PE6/FSMC_A22/TRACECK3, 6 VBAT, 7 PC13/TAMPER-RTC, 8 PC14/OSC32_IN, 9 PC15/OSC32_OUT, 10 VSS_5, 11 VDD_5, 12 OSC_IN, 13 OSC_OUT, 14 NRST, 15 PC0/ADC123_IN10, 16 PC1/ADC123_IN11, 17 PC2/ADC123_IN12, 18 PC3/ADC123_IN13, 19 VSSA, 20 VREF-, 21 VREF+, 22 VDDA, 23 PA0/WKUP/US2_CTS/ADC123_INI/T2_CH1_ETR/T5_CH1/T8_ETR, 24 PA1/US2_RTS/ADC123_IN1/T5_CH3/T2_CH3, 25 PA2/US2_TX/ADC123_IN2/T5_CH3/T2_CH3, 26 PA3/US2_RX/ADC123_IN3/T5_CH4/T2_CH4, 27 VSS_4, 28 VDD_4, 29 PA4/SPI1_NSS, 30 PA5/SPI1_SCK, 31 PA6/SPI1_MISO, 32 PA7/SPI1_MOSI, 33 PC4, 34 PC5, 35 PB0, 36 PB1, 37 PB2/BOOT1, 38 PE7/FSMC_D4, 39 PE8/FSMC_D5, 40 PE9/FSMC_D6, 41 PE10/FSMC_D7, 42 PE11/FSMC_D8, 43 PE12/FSMC_D9, 44 PE13/FSMC_D10, 45 PE14/FSMC_D11, 46 PE15/FSMC_D12, 47 PB10/I2C_SCL/USART3_TX, 48 PB11/I2C2_SDA/USART3_RX, 49 VSS_1, 50 VDD_1, 51 PB12/SPI2_NSS, 52 PB13/SPI2_SCK, 53 PB14/SPI2_MISO, 54 PB15/SPI2_MOSI, 55 PD8/FSMC_D13, 56 PD9/FSMC_D14, 57 PD10/FSMC_D15, 58 PD11/FSMC_A16, 59 PD12/FSMC_A17, 60 PD13/FSMC_A18, 61 PD14/FSMC_D0, 62 PD15/FSMC_D1, 63 PC6/I2S_MCK/SDIO_D6, 64 PC7/I2S3_MCK/SDIO_D7, 65 PC8/SDIO_D0, 66 PC9/SDIO_D1, 67 PA8, 68 PA9/USART1_TX, 69 PA10/USART1_RX, 70 PA11, 71 PA12, 72 PA13/JTMS-SWDIO, 73 NC, 74 VSS_2, 75 VDD_2, 76 PA14/JTCK_SWCLK, 77 PA15/ITD1/SPI3_NSS, 78 PC10/UART4_TX/SDIO_D2, 79 PC11/UART4_RX/SDIO_D3, 80 PC12/SDIO_CK, 81 PD0/FSMC_D2, 82 PD1/FSMC_D3, 83 PD2/SDIO_CMD, 84 PD3/FSMC_CLK, 85 PD4/FSMC_NOE, 86 PD5/FSMC_NWE, 87 PD6/FSMC_NWAIT, 88 PD7/FSMC_NE1/FSMC_NE2, 89 PB3/JTD0, 90 PB4/NJTRST, 91 PB5, 92 PB6, 93 PB7, 94 BOOT0, 95 PB8/SDIO_D4, 96 PB9/SDIO_D5, 97 PE0/FSMC_NBL0, 98 PE1/FSMC_NBL1, 99 VSS_3, 100 VDD_3

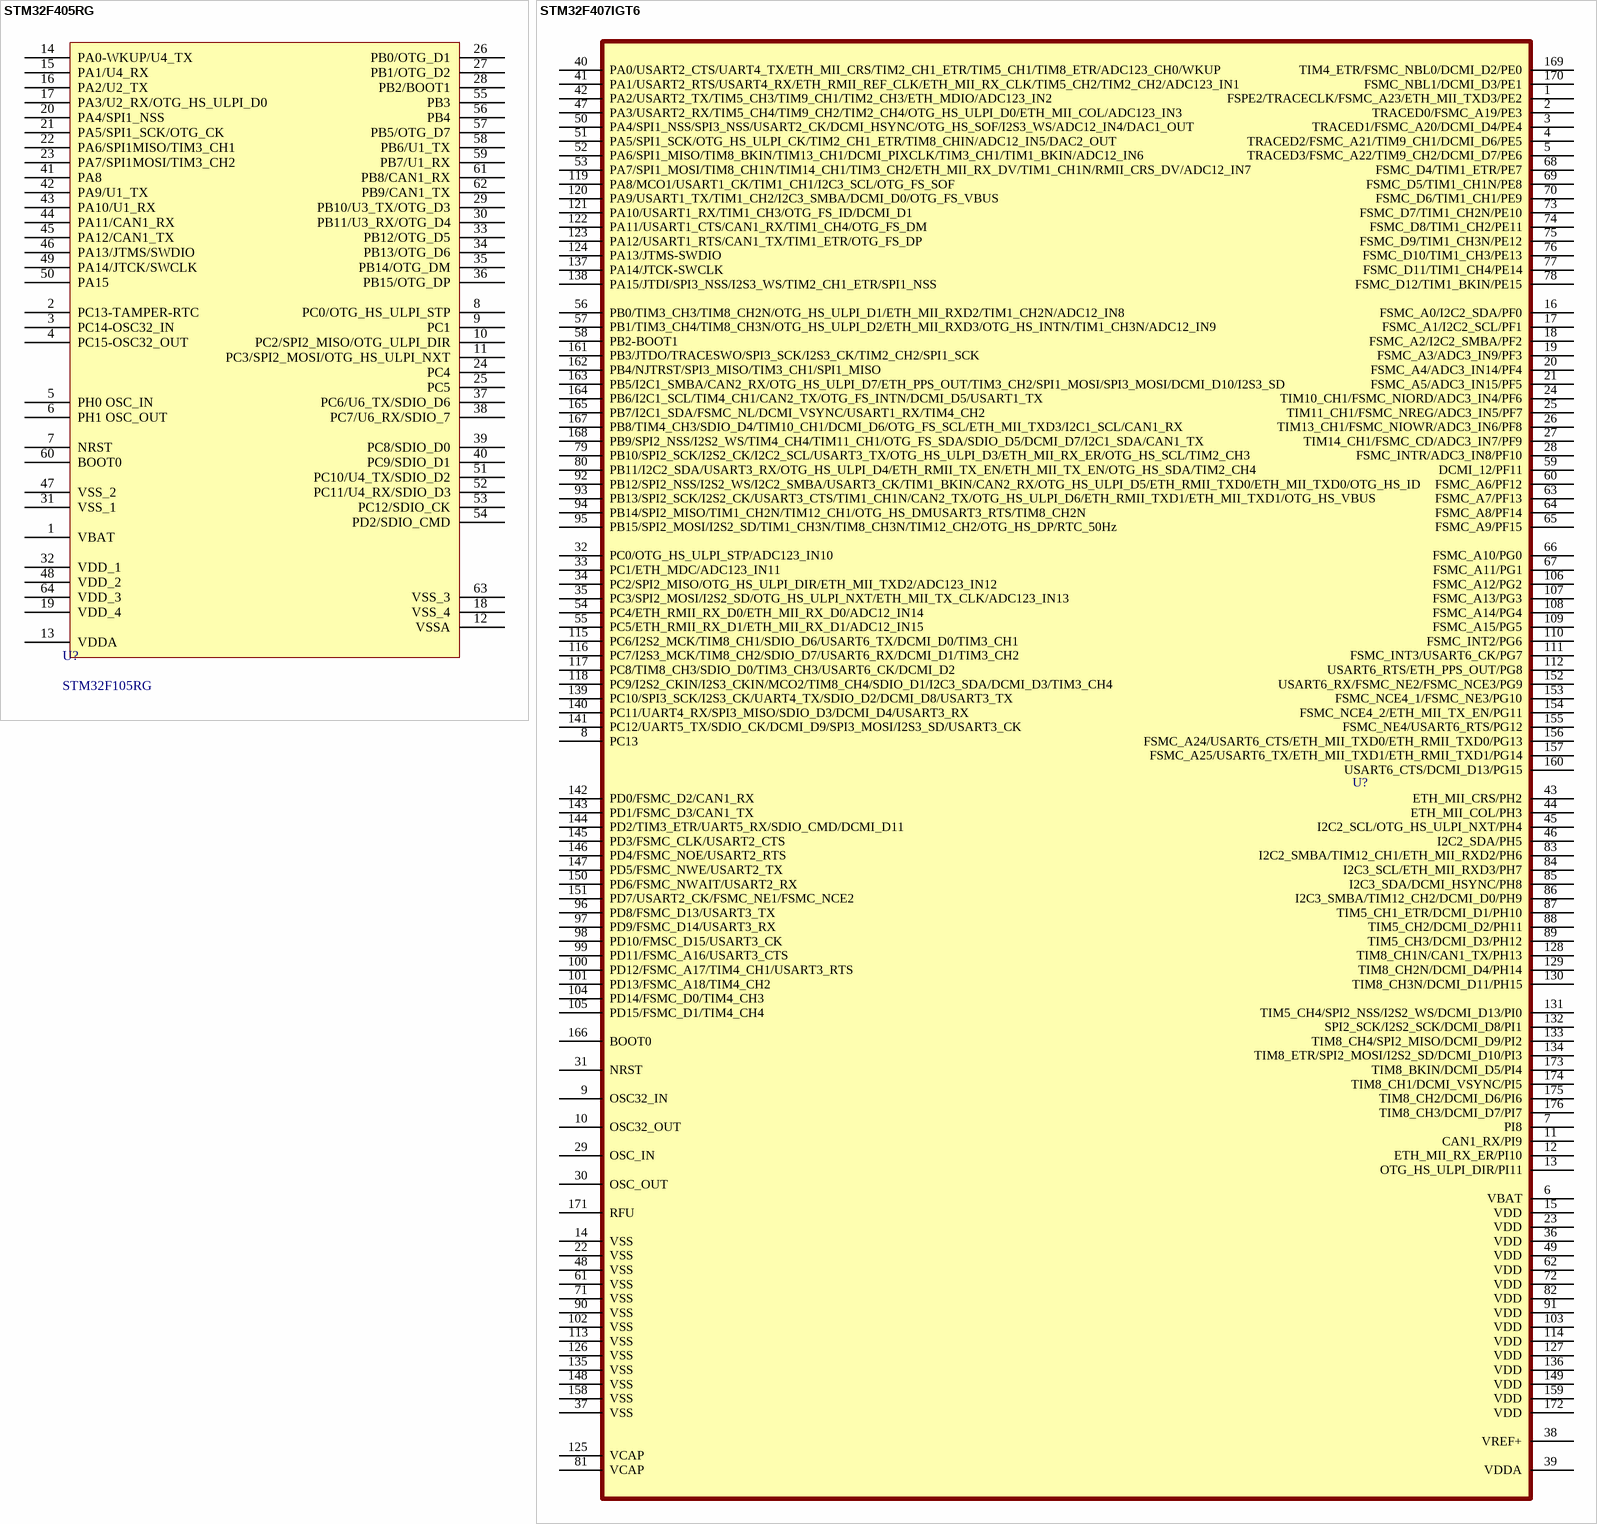
[diagram p7: symbols STM32F405RG to STM32F407IGT6]

## STM32F405RG
designator U?, comment STM32F105RG
footprint LQFP64
pins: 1 VBAT, 2 PC13-TAMPER-RTC, 3 PC14-OSC32_IN, 4 PC15-OSC32_OUT, 5 PH0 OSC_IN, 6 PH1 OSC_OUT, 7 NRST, 8 PC0/OTG_HS_ULPI_STP, 9 PC1, 10 PC2/SPI2_MISO/OTG_ULPI_DIR, 11 PC3/SPI2_MOSI/OTG_HS_ULPI_NXT, 12 VSSA, 13 VDDA, 14 PA0-WKUP/U4_TX, 15 PA1/U4_RX, 16 PA2/U2_TX, 17 PA3/U2_RX/OTG_HS_ULPI_D0, 18 VSS_4, 19 VDD_4, 20 PA4/SPI1_NSS, 21 PA5/SPI1_SCK/OTG_CK, 22 PA6/SPI1MISO/TIM3_CH1, 23 PA7/SPI1MOSI/TIM3_CH2, 24 PC4, 25 PC5, 26 PB0/OTG_D1, 27 PB1/OTG_D2, 28 PB2/BOOT1, 29 PB10/U3_TX/OTG_D3, 30 PB11/U3_RX/OTG_D4, 31 VSS_1, 32 VDD_1, 33 PB12/OTG_D5, 34 PB13/OTG_D6, 35 PB14/OTG_DM, 36 PB15/OTG_DP, 37 PC6/U6_TX/SDIO_D6, 38 PC7/U6_RX/SDIO_7, 39 PC8/SDIO_D0, 40 PC9/SDIO_D1, 41 PA8, 42 PA9/U1_TX, 43 PA10/U1_RX, 44 PA11/CAN1_RX, 45 PA12/CAN1_TX, 46 PA13/JTMS/SWDIO, 47 VSS_2, 48 VDD_2, 49 PA14/JTCK/SWCLK, 50 PA15, 51 PC10/U4_TX/SDIO_D2, 52 PC11/U4_RX/SDIO_D3, 53 PC12/SDIO_CK, 54 PD2/SDIO_CMD, 55 PB3, 56 PB4, 57 PB5/OTG_D7, 58 PB6/U1_TX, 59 PB7/U1_RX, 60 BOOT0, 61 PB8/CAN1_RX, 62 PB9/CAN1_TX, 63 VSS_3, 64 VDD_3

## STM32F407IGT6
designator U?  (value not drawn)
footprint TPFQ176 (Footprint not found)
pins: 1 FSPE2/TRACECLK/FSMC_A23/ETH_MII_TXD3/PE2, 2 TRACED0/FSMC_A19/PE3, 3 TRACED1/FSMC_A20/DCMI_D4/PE4, 4 TRACED2/FSMC_A21/TIM9_CH1/DCMI_D6/PE5, 5 TRACED3/FSMC_A22/TIM9_CH2/DCMI_D7/PE6, 6 VBAT, 7 PI8, 8 PC13, 9 OSC32_IN, 10 OSC32_OUT, 11 CAN1_RX/PI9, 12 ETH_MII_RX_ER/PI10, 13 OTG_HS_ULPI_DIR/PI11, 14 VSS, 15 VDD, 16 FSMC_A0/I2C2_SDA/PF0, 17 FSMC_A1/I2C2_SCL/PF1, 18 FSMC_A2/I2C2_SMBA/PF2, 19 FSMC_A3/ADC3_IN9/PF3, 20 FSMC_A4/ADC3_IN14/PF4, 21 FSMC_A5/ADC3_IN15/PF5, 22 VSS, 23 VDD, 24 TIM10_CH1/FSMC_NIORD/ADC3_IN4/PF6, 25 TIM11_CH1/FSMC_NREG/ADC3_IN5/PF7, 26 TIM13_CH1/FSMC_NIOWR/ADC3_IN6/PF8, 27 TIM14_CH1/FSMC_CD/ADC3_IN7/PF9, 28 FSMC_INTR/ADC3_IN8/PF10, 29 OSC_IN, 30 OSC_OUT, 31 NRST, 32 PC0/OTG_HS_ULPI_STP/ADC123_IN10, 33 PC1/ETH_MDC/ADC123_IN11, 34 PC2/SPI2_MISO/OTG_HS_ULPI_DIR/ETH_MII_TXD2/ADC123_IN12, 35 PC3/SPI2_MOSI/I2S2_SD/OTG_HS_ULPI_NXT/ETH_MII_TX_CLK/ADC123_IN13, 36 VDD, 37 VSS, 38 VREF+, 39 VDDA, 40 PA0/USART2_CTS/UART4_TX/ETH_MII_CRS/TIM2_CH1_ETR/TIM5_CH1/TIM8_ETR/ADC123_CH0/WKUP, 41 PA1/USART2_RTS/USART4_RX/ETH_RMII_REF_CLK/ETH_MII_RX_CLK/TIM5_CH2/TIM2_CH2/ADC123_IN1, 42 PA2/USART2_TX/TIM5_CH3/TIM9_CH1/TIM2_CH3/ETH_MDIO/ADC123_IN2, 43 ETH_MII_CRS/PH2, 44 ETH_MII_COL/PH3, 45 I2C2_SCL/OTG_HS_ULPI_NXT/PH4, 46 I2C2_SDA/PH5, 47 PA3/USART2_RX/TIM5_CH4/TIM9_CH2/TIM2_CH4/OTG_HS_ULPI_D0/ETH_MII_COL/ADC123_IN3, 48 VSS, 49 VDD, 50 PA4/SPI1_NSS/SPI3_NSS/USART2_CK/DCMI_HSYNC/OTG_HS_SOF/I2S3_WS/ADC12_IN4/DAC1_OUT, 51 PA5/SPI1_SCK/OTG_HS_ULPI_CK/TIM2_CH1_ETR/TIM8_CHIN/ADC12_IN5/DAC2_OUT, 52 PA6/SPI1_MISO/TIM8_BKIN/TIM13_CH1/DCMI_PIXCLK/TIM3_CH1/TIM1_BKIN/ADC12_IN6, 53 PA7/SPI1_MOSI/TIM8_CH1N/TIM14_CH1/TIM3_CH2/ETH_MII_RX_DV/TIM1_CH1N/RMII_CRS_DV/ADC12_IN7, 54 PC4/ETH_RMII_RX_D0/ETH_MII_RX_D0/ADC12_IN14, 55 PC5/ETH_RMII_RX_D1/ETH_MII_RX_D1/ADC12_IN15, 56 PB0/TIM3_CH3/TIM8_CH2N/OTG_HS_ULPI_D1/ETH_MII_RXD2/TIM1_CH2N/ADC12_IN8, 57 PB1/TIM3_CH4/TIM8_CH3N/OTG_HS_ULPI_D2/ETH_MII_RXD3/OTG_HS_INTN/TIM1_CH3N/ADC12_IN9, 58 PB2-BOOT1, 59 DCMI_12/PF11, 60 FSMC_A6/PF12, 61 VSS, 62 VDD, 63 FSMC_A7/PF13, 64 FSMC_A8/PF14, 65 FSMC_A9/PF15, 66 FSMC_A10/PG0, 67 FSMC_A11/PG1, 68 FSMC_D4/TIM1_ETR/PE7, 69 FSMC_D5/TIM1_CH1N/PE8, 70 FSMC_D6/TIM1_CH1/PE9, 71 VSS, 72 VDD, 73 FSMC_D7/TIM1_CH2N/PE10, 74 FSMC_D8/TIM1_CH2/PE11, 75 FSMC_D9/TIM1_CH3N/PE12, 76 FSMC_D10/TIM1_CH3/PE13, 77 FSMC_D11/TIM1_CH4/PE14, 78 FSMC_D12/TIM1_BKIN/PE15, 79 PB10/SPI2_SCK/I2S2_CK/I2C2_SCL/USART3_TX/OTG_HS_ULPI_D3/ETH_MII_RX_ER/OTG_HS_SCL/TIM2_CH3, 80 PB11/I2C2_SDA/USART3_RX/OTG_HS_ULPI_D4/ETH_RMII_TX_EN/ETH_MII_TX_EN/OTG_HS_SDA/TIM2_CH4, 81 VCAP, 82 VDD, 83 I2C2_SMBA/TIM12_CH1/ETH_MII_RXD2/PH6, 84 I2C3_SCL/ETH_MII_RXD3/PH7, 85 I2C3_SDA/DCMI_HSYNC/PH8, 86 I2C3_SMBA/TIM12_CH2/DCMI_D0/PH9, 87 TIM5_CH1_ETR/DCMI_D1/PH10, 88 TIM5_CH2/DCMI_D2/PH11, 89 TIM5_CH3/DCMI_D3/PH12, 90 VSS, 91 VDD, 92 PB12/SPI2_NSS/I2S2_WS/I2C2_SMBA/USART3_CK/TIM1_BKIN/CAN2_RX/OTG_HS_ULPI_D5/ETH_RMII_TXD0/ETH_MII_TXD0/OTG_HS_ID, 93 PB13/SPI2_SCK/I2S2_CK/USART3_CTS/TIM1_CH1N/CAN2_TX/OTG_HS_ULPI_D6/ETH_RMII_TXD1/ETH_MII_TXD1/OTG_HS_VBUS, 94 PB14/SPI2_MISO/TIM1_CH2N/TIM12_CH1/OTG_HS_DMUSART3_RTS/TIM8_CH2N, 95 PB15/SPI2_MOSI/I2S2_SD/TIM1_CH3N/TIM8_CH3N/TIM12_CH2/OTG_HS_DP/RTC_50Hz, 96 PD8/FSMC_D13/USART3_TX, 97 PD9/FSMC_D14/USART3_RX, 98 PD10/FMSC_D15/USART3_CK, 99 PD11/FSMC_A16/USART3_CTS, 100 PD12/FSMC_A17/TIM4_CH1/USART3_RTS, 101 PD13/FSMC_A18/TIM4_CH2, 102 VSS, 103 VDD, 104 PD14/FSMC_D0/TIM4_CH3, 105 PD15/FSMC_D1/TIM4_CH4, 106 FSMC_A12/PG2, 107 FSMC_A13/PG3, 108 FSMC_A14/PG4, 109 FSMC_A15/PG5, 110 FSMC_INT2/PG6, 111 FSMC_INT3/USART6_CK/PG7, 112 USART6_RTS/ETH_PPS_OUT/PG8, 113 VSS, 114 VDD, 115 PC6/I2S2_MCK/TIM8_CH1/SDIO_D6/USART6_TX/DCMI_D0/TIM3_CH1, 116 PC7/I2S3_MCK/TIM8_CH2/SDIO_D7/USART6_RX/DCMI_D1/TIM3_CH2, 117 PC8/TIM8_CH3/SDIO_D0/TIM3_CH3/USART6_CK/DCMI_D2, 118 PC9/I2S2_CKIN/I2S3_CKIN/MCO2/TIM8_CH4/SDIO_D1/I2C3_SDA/DCMI_D3/TIM3_CH4, 119 PA8/MCO1/USART1_CK/TIM1_CH1/I2C3_SCL/OTG_FS_SOF, 120 PA9/USART1_TX/TIM1_CH2/I2C3_SMBA/DCMI_D0/OTG_FS_VBUS, 121 PA10/USART1_RX/TIM1_CH3/OTG_FS_ID/DCMI_D1, 122 PA11/USART1_CTS/CAN1_RX/TIM1_CH4/OTG_FS_DM, 123 PA12/USART1_RTS/CAN1_TX/TIM1_ETR/OTG_FS_DP, 124 PA13/JTMS-SWDIO, 125 VCAP, 126 VSS, 127 VDD, 128 TIM8_CH1N/CAN1_TX/PH13, 129 TIM8_CH2N/DCMI_D4/PH14, 130 TIM8_CH3N/DCMI_D11/PH15, 131 TIM5_CH4/SPI2_NSS/I2S2_WS/DCMI_D13/PI0, 132 SPI2_SCK/I2S2_SCK/DCMI_D8/PI1, 133 TIM8_CH4/SPI2_MISO/DCMI_D9/PI2, 134 TIM8_ETR/SPI2_MOSI/I2S2_SD/DCMI_D10/PI3, 135 VSS, 136 VDD, 137 PA14/JTCK-SWCLK, 138 PA15/JTDI/SPI3_NSS/I2S3_WS/TIM2_CH1_ETR/SPI1_NSS, 139 PC10/SPI3_SCK/I2S3_CK/UART4_TX/SDIO_D2/DCMI_D8/USART3_TX, 140 PC11/UART4_RX/SPI3_MISO/SDIO_D3/DCMI_D4/USART3_RX, 141 PC12/UART5_TX/SDIO_CK/DCMI_D9/SPI3_MOSI/I2S3_SD/USART3_CK, 142 PD0/FSMC_D2/CAN1_RX, 143 PD1/FSMC_D3/CAN1_TX, 144 PD2/TIM3_ETR/UART5_RX/SDIO_CMD/DCMI_D11, 145 PD3/FSMC_CLK/USART2_CTS, 146 PD4/FSMC_NOE/USART2_RTS, 147 PD5/FSMC_NWE/USART2_TX, 148 VSS, 149 VDD, 150 PD6/FSMC_NWAIT/USART2_RX, 151 PD7/USART2_CK/FSMC_NE1/FSMC_NCE2, 152 USART6_RX/FSMC_NE2/FSMC_NCE3/PG9, 153 FSMC_NCE4_1/FSMC_NE3/PG10, 154 FSMC_NCE4_2/ETH_MII_TX_EN/PG11, 155 FSMC_NE4/USART6_RTS/PG12, 156 FSMC_A24/USART6_CTS/ETH_MII_TXD0/ETH_RMII_TXD0/PG13, 157 FSMC_A25/USART6_TX/ETH_MII_TXD1/ETH_RMII_TXD1/PG14, 158 VSS, 159 VDD, 160 USART6_CTS/DCMI_D13/PG15, 161 PB3/JTDO/TRACESWO/SPI3_SCK/I2S3_CK/TIM2_CH2/SPI1_SCK, 162 PB4/NJTRST/SPI3_MISO/TIM3_CH1/SPI1_MISO, 163 PB5/I2C1_SMBA/CAN2_RX/OTG_HS_ULPI_D7/ETH_PPS_OUT/TIM3_CH2/SPI1_MOSI/SPI3_MOSI/DCMI_D10/I2S3_SD, 164 PB6/I2C1_SCL/TIM4_CH1/CAN2_TX/OTG_FS_INTN/DCMI_D5/USART1_TX, 165 PB7/I2C1_SDA/FSMC_NL/DCMI_VSYNC/USART1_RX/TIM4_CH2, 166 BOOT0, 167 PB8/TIM4_CH3/SDIO_D4/TIM10_CH1/DCMI_D6/OTG_FS_SCL/ETH_MII_TXD3/I2C1_SCL/CAN1_RX, 168 PB9/SPI2_NSS/I2S2_WS/TIM4_CH4/TIM11_CH1/OTG_FS_SDA/SDIO_D5/DCMI_D7/I2C1_SDA/CAN1_TX, 169 TIM4_ETR/FSMC_NBL0/DCMI_D2/PE0, 170 FSMC_NBL1/DCMI_D3/PE1, 171 RFU, 172 VDD, 173 TIM8_BKIN/DCMI_D5/PI4, 174 TIM8_CH1/DCMI_VSYNC/PI5, 175 TIM8_CH2/DCMI_D6/PI6, 176 TIM8_CH3/DCMI_D7/PI7

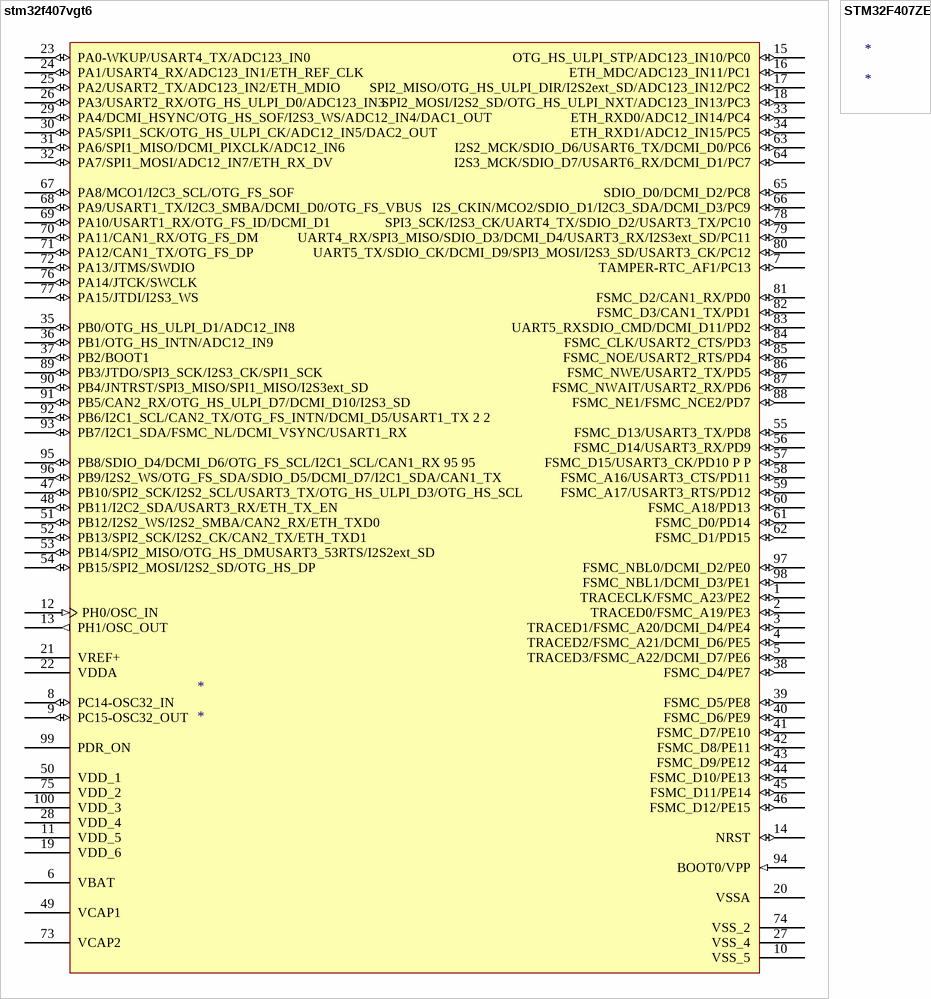
[diagram p8: symbols stm32f407vgt6 to STM32F407ZE]

## stm32f407vgt6
designator *
pins: 1 TRACECLK/FSMC_A23/PE2 (io), 2 TRACED0/FSMC_A19/PE3 (io), 3 TRACED1/FSMC_A20/DCMI_D4/PE4 (io), 4 TRACED2/FSMC_A21/DCMI_D6/PE5 (io), 5 TRACED3/FSMC_A22/DCMI_D7/PE6 (io), 6 VBAT (power), 7 TAMPER-RTC_AF1/PC13 (io), 8 PC14-OSC32_IN (io), 9 PC15-OSC32_OUT (io), 10 VSS_5 (power), 11 VDD_5 (power), 12 PH0/OSC_IN (in), 13 PH1/OSC_OUT (out), 14 NRST (io), 15 OTG_HS_ULPI_STP/ADC123_IN10/PC0 (io), 16 ETH_MDC/ADC123_IN11/PC1 (io), 17 SPI2_MISO/OTG_HS_ULPI_DIR/I2S2ext_SD/ADC123_IN12/PC2 (io), 18 SPI2_MOSI/I2S2_SD/OTG_HS_ULPI_NXT/ADC123_IN13/PC3 (io), 19 VDD_6 (power), 20 VSSA (power), 21 VREF+ (power), 22 VDDA (power), 23 PA0-WKUP/USART4_TX/ADC123_IN0 (io), 24 PA1/USART4_RX/ADC123_IN1/ETH_REF_CLK (io), 25 PA2/USART2_TX/ADC123_IN2/ETH_MDIO (io), 26 PA3/USART2_RX/OTG_HS_ULPI_D0/ADC123_IN3 (io), 27 VSS_4 (power), 28 VDD_4 (power), 29 PA4/DCMI_HSYNC/OTG_HS_SOF/I2S3_WS/ADC12_IN4/DAC1_OUT (io), 30 PA5/SPI1_SCK/OTG_HS_ULPI_CK/ADC12_IN5/DAC2_OUT (io), 31 PA6/SPI1_MISO/DCMI_PIXCLK/ADC12_IN6 (io), 32 PA7/SPI1_MOSI/ADC12_IN7/ETH_RX_DV (io), 33 ETH_RXD0/ADC12_IN14/PC4 (io), 34 ETH_RXD1/ADC12_IN15/PC5 (io), 35 PB0/OTG_HS_ULPI_D1/ADC12_IN8 (io), 36 PB1/OTG_HS_INTN/ADC12_IN9 (io), 37 PB2/BOOT1 (io), 38 FSMC_D4/PE7 (io), 39 FSMC_D5/PE8 (io), 40 FSMC_D6/PE9 (io), 41 FSMC_D7/PE10 (io), 42 FSMC_D8/PE11 (io), 43 FSMC_D9/PE12 (io), 44 FSMC_D10/PE13 (io), 45 FSMC_D11/PE14 (io), 46 FSMC_D12/PE15 (io), 47 PB10/SPI2_SCK/I2S2_SCL/USART3_TX/OTG_HS_ULPI_D3/OTG_HS_SCL (io), 48 PB11/I2C2_SDA/USART3_RX/ETH_TX_EN (io), 49 VCAP1 (power), 50 VDD_1 (power), 51 PB12/I2S2_WS/I2S2_SMBA/CAN2_RX/ETH_TXD0 (io), 52 PB13/SPI2_SCK/I2S2_CK/CAN2_TX/ETH_TXD1 (io), 53 PB14/SPI2_MISO/OTG_HS_DMUSART3_53RTS/I2S2ext_SD (io), 54 PB15/SPI2_MOSI/I2S2_SD/OTG_HS_DP (io), 55 FSMC_D13/USART3_TX/PD8 (io), 56 FSMC_D14/USART3_RX/PD9 (io), 57 FSMC_D15/USART3_CK/PD10 P P (io), 58 FSMC_A16/USART3_CTS/PD11 (io), 59 FSMC_A17/USART3_RTS/PD12 (io), 60 FSMC_A18/PD13 (io), 61 FSMC_D0/PD14 (io), 62 FSMC_D1/PD15 (io), 63 I2S2_MCK/SDIO_D6/USART6_TX/DCMI_D0/PC6 (io), 64 I2S3_MCK/SDIO_D7/USART6_RX/DCMI_D1/PC7 (io), 65 SDIO_D0/DCMI_D2/PC8 (io), 66 I2S_CKIN/MCO2/SDIO_D1/I2C3_SDA/DCMI_D3/PC9 (io), 67 PA8/MCO1/I2C3_SCL/OTG_FS_SOF (io), 68 PA9/USART1_TX/I2C3_SMBA/DCMI_D0/OTG_FS_VBUS (io), 69 PA10/USART1_RX/OTG_FS_ID/DCMI_D1 (io), 70 PA11/CAN1_RX/OTG_FS_DM (io), 71 PA12/CAN1_TX/OTG_FS_DP (io), 72 PA13/JTMS/SWDIO (io), 73 VCAP2, 74 VSS_2 (power), 75 VDD_2 (power), 76 PA14/JTCK/SWCLK (io), 77 PA15/JTDI/I2S3_WS (io), 78 SPI3_SCK/I2S3_CK/UART4_TX/SDIO_D2/USART3_TX/PC10 (io), 79 UART4_RX/SPI3_MISO/SDIO_D3/DCMI_D4/USART3_RX/I2S3ext_SD/PC11 (io), 80 UART5_TX/SDIO_CK/DCMI_D9/SPI3_MOSI/I2S3_SD/USART3_CK/PC12 (io), 81 FSMC_D2/CAN1_RX/PD0 (io), 82 FSMC_D3/CAN1_TX/PD1 (io), 83 UART5_RXSDIO_CMD/DCMI_D11/PD2 (io), 84 FSMC_CLK/USART2_CTS/PD3 (io), 85 FSMC_NOE/USART2_RTS/PD4 (io), 86 FSMC_NWE/USART2_TX/PD5 (io), 87 FSMC_NWAIT/USART2_RX/PD6 (io), 88 FSMC_NE1/FSMC_NCE2/PD7 (io), 89 PB3/JTDO/SPI3_SCK/I2S3_CK/SPI1_SCK (io), 90 PB4/JNTRST/SPI3_MISO/SPI1_MISO/I2S3ext_SD (io), 91 PB5/CAN2_RX/OTG_HS_ULPI_D7/DCMI_D10/I2S3_SD (io), 92 PB6/I2C1_SCL/CAN2_TX/OTG_FS_INTN/DCMI_D5/USART1_TX 2 2 (io), 93 PB7/I2C1_SDA/FSMC_NL/DCMI_VSYNC/USART1_RX (io), 94 BOOT0/VPP (in), 95 PB8/SDIO_D4/DCMI_D6/OTG_FS_SCL/I2C1_SCL/CAN1_RX 95 95 (io), 96 PB9/I2S2_WS/OTG_FS_SDA/SDIO_D5/DCMI_D7/I2C1_SDA/CAN1_TX (io), 97 FSMC_NBL0/DCMI_D2/PE0 (io), 98 FSMC_NBL1/DCMI_D3/PE1 (io), 99 PDR_ON (power), 100 VDD_3 (power)

## STM32F407ZE
designator *

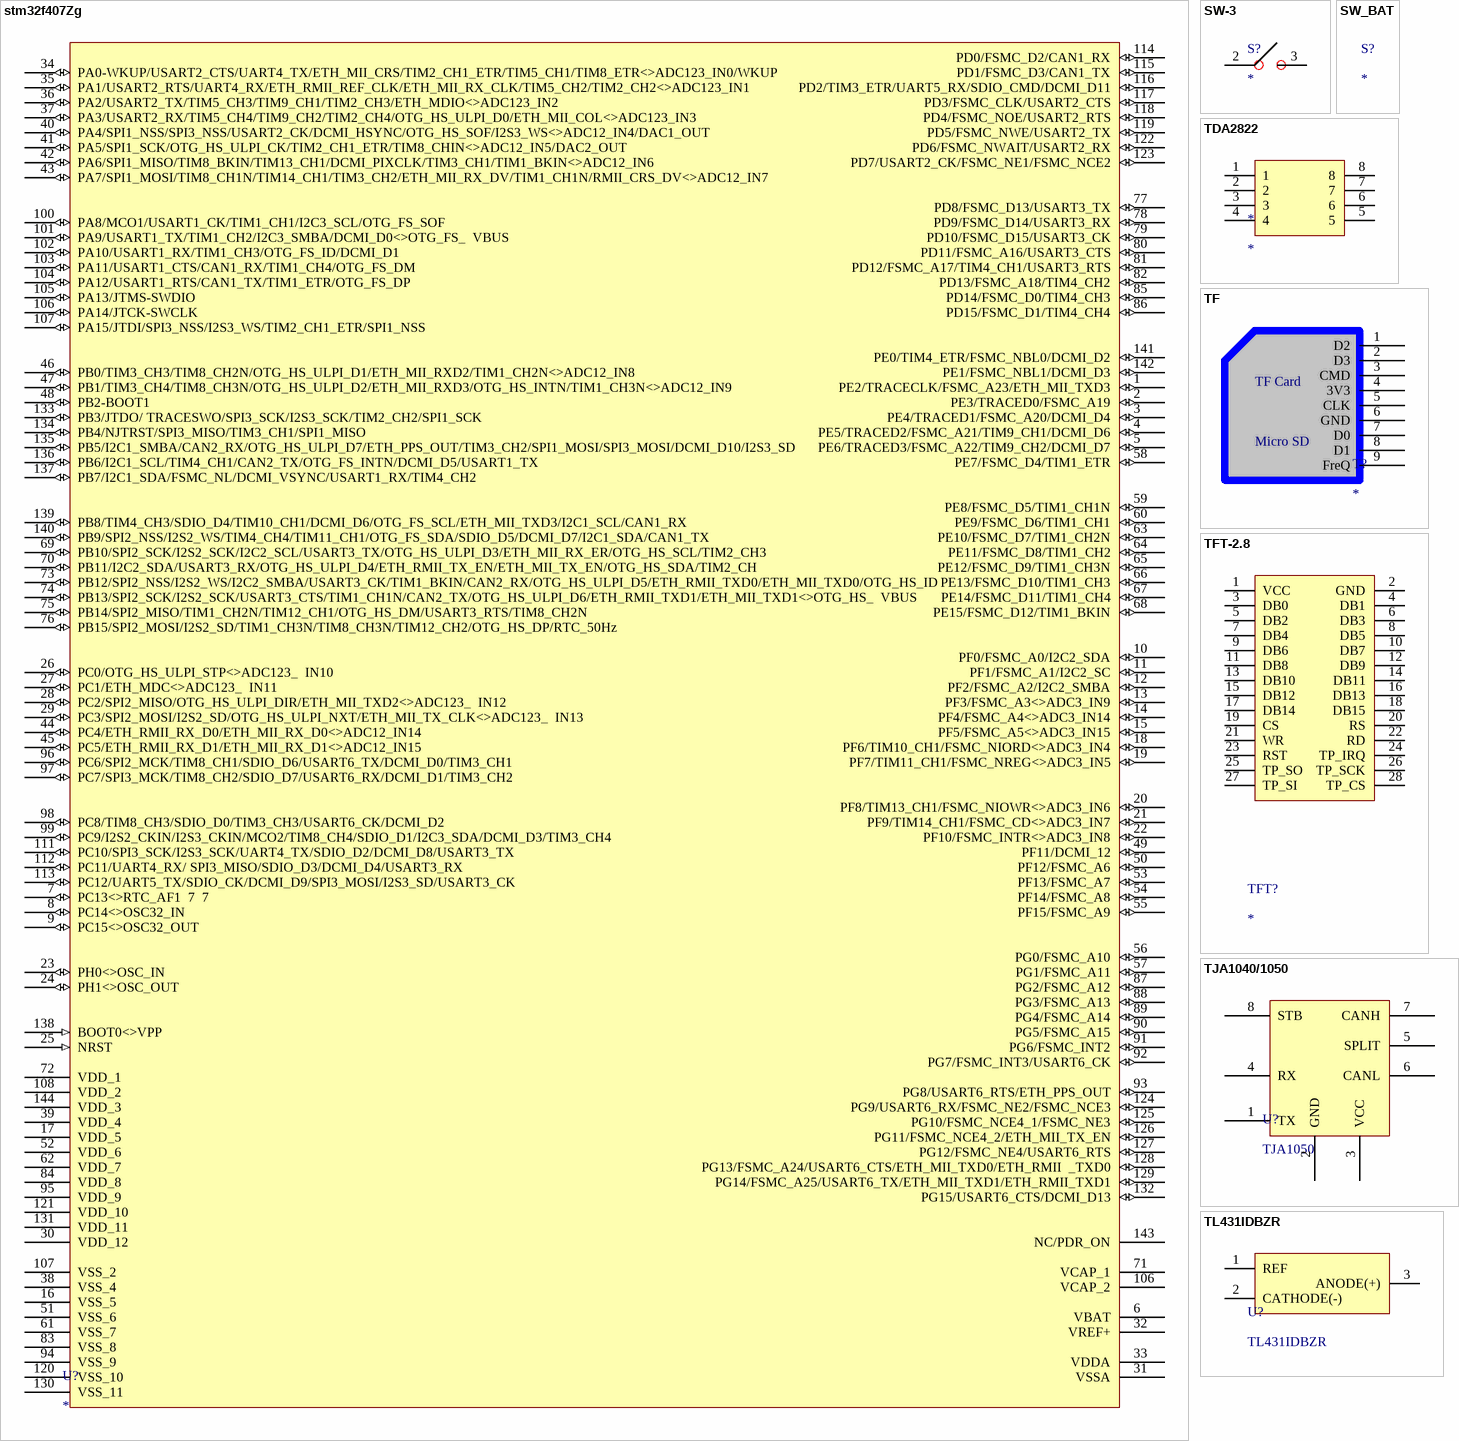
[diagram p9: symbols stm32f407Zg to TL431IDBZR]

## stm32f407Zg
designator U?
pins: 1 PE2/TRACECLK/FSMC_A23/ETH_MII_TXD3 (io), 2 PE3/TRACED0/FSMC_A19 (io), 3 PE4/TRACED1/FSMC_A20/DCMI_D4 (io), 4 PE5/TRACED2/FSMC_A21/TIM9_CH1/DCMI_D6 (io), 5 PE6/TRACED3/FSMC_A22/TIM9_CH2/DCMI_D7 (io), 6 VBAT (power), 7 PC13<>RTC_AF1  7  7 (io), 8 PC14<>OSC32_IN (io), 9 PC15<>OSC32_OUT (io), 10 PF0/FSMC_A0/I2C2_SDA (io), 11 PF1/FSMC_A1/I2C2_SC (io), 12 PF2/FSMC_A2/I2C2_SMBA (io), 13 PF3/FSMC_A3<>ADC3_IN9 (io), 14 PF4/FSMC_A4<>ADC3_IN14 (io), 15 PF5/FSMC_A5<>ADC3_IN15 (io), 16 VSS_5 (power), 17 VDD_5 (power), 18 PF6/TIM10_CH1/FSMC_NIORD<>ADC3_IN4 (io), 19 PF7/TIM11_CH1/FSMC_NREG<>ADC3_IN5 (io), 20 PF8/TIM13_CH1/FSMC_NIOWR<>ADC3_IN6 (io), 21 PF9/TIM14_CH1/FSMC_CD<>ADC3_IN7 (io), 22 PF10/FSMC_INTR<>ADC3_IN8 (io), 23 PH0<>OSC_IN (io), 24 PH1<>OSC_OUT (io), 25 NRST (in), 26 PC0/OTG_HS_ULPI_STP<>ADC123_  IN10 (io), 27 PC1/ETH_MDC<>ADC123_  IN11 (io), 28 PC2/SPI2_MISO/OTG_HS_ULPI_DIR/ETH_MII_TXD2<>ADC123_  IN12 (io), 29 PC3/SPI2_MOSI/I2S2_SD/OTG_HS_ULPI_NXT/ETH_MII_TX_CLK<>ADC123_  IN13 (io), 30 VDD_12 (power), 31 VSSA (power), 32 VREF+ (power), 33 VDDA (power), 34 PA0-WKUP/USART2_CTS/UART4_TX/ETH_MII_CRS/TIM2_CH1_ETR/TIM5_CH1/TIM8_ETR<>ADC123_IN0/WKUP (io), 35 PA1/USART2_RTS/UART4_RX/ETH_RMII_REF_CLK/ETH_MII_RX_CLK/TIM5_CH2/TIM2_CH2<>ADC123_IN1 (io), 36 PA2/USART2_TX/TIM5_CH3/TIM9_CH1/TIM2_CH3/ETH_MDIO<>ADC123_IN2 (io), 37 PA3/USART2_RX/TIM5_CH4/TIM9_CH2/TIM2_CH4/OTG_HS_ULPI_D0/ETH_MII_COL<>ADC123_IN3 (io), 38 VSS_4 (power), 39 VDD_4 (power), 40 PA4/SPI1_NSS/SPI3_NSS/USART2_CK/DCMI_HSYNC/OTG_HS_SOF/I2S3_WS<>ADC12_IN4/DAC1_OUT (io), 41 PA5/SPI1_SCK/OTG_HS_ULPI_CK/TIM2_CH1_ETR/TIM8_CHIN<>ADC12_IN5/DAC2_OUT (io), 42 PA6/SPI1_MISO/TIM8_BKIN/TIM13_CH1/DCMI_PIXCLK/TIM3_CH1/TIM1_BKIN<>ADC12_IN6 (io), 43 PA7/SPI1_MOSI/TIM8_CH1N/TIM14_CH1/TIM3_CH2/ETH_MII_RX_DV/TIM1_CH1N/RMII_CRS_DV<>ADC12_IN7 (io), 44 PC4/ETH_RMII_RX_D0/ETH_MII_RX_D0<>ADC12_IN14 (io), 45 PC5/ETH_RMII_RX_D1/ETH_MII_RX_D1<>ADC12_IN15 (io), 46 PB0/TIM3_CH3/TIM8_CH2N/OTG_HS_ULPI_D1/ETH_MII_RXD2/TIM1_CH2N<>ADC12_IN8 (io), 47 PB1/TIM3_CH4/TIM8_CH3N/OTG_HS_ULPI_D2/ETH_MII_RXD3/OTG_HS_INTN/TIM1_CH3N<>ADC12_IN9 (io), 48 PB2-BOOT1 (io), 49 PF11/DCMI_12 (io), 50 PF12/FSMC_A6 (io), 51 VSS_6 (power), 52 VDD_6 (power), 53 PF13/FSMC_A7 (io), 54 PF14/FSMC_A8 (io), 55 PF15/FSMC_A9 (io), 56 PG0/FSMC_A10 (io), 57 PG1/FSMC_A11 (io), 58 PE7/FSMC_D4/TIM1_ETR (io), 59 PE8/FSMC_D5/TIM1_CH1N (io), 60 PE9/FSMC_D6/TIM1_CH1 (io), 61 VSS_7 (power), 62 VDD_7 (power), 63 PE10/FSMC_D7/TIM1_CH2N (io), 64 PE11/FSMC_D8/TIM1_CH2 (io), 65 PE12/FSMC_D9/TIM1_CH3N (io), 66 PE13/FSMC_D10/TIM1_CH3 (io), 67 PE14/FSMC_D11/TIM1_CH4 (io), 68 PE15/FSMC_D12/TIM1_BKIN (io), 69 PB10/SPI2_SCK/I2S2_SCK/I2C2_SCL/USART3_TX/OTG_HS_ULPI_D3/ETH_MII_RX_ER/OTG_HS_SCL/TIM2_CH3 (io), 70 PB11/I2C2_SDA/USART3_RX/OTG_HS_ULPI_D4/ETH_RMII_TX_EN/ETH_MII_TX_EN/OTG_HS_SDA/TIM2_CH (io), 71 VCAP_1 (power), 72 VDD_1 (power), 73 PB12/SPI2_NSS/I2S2_WS/I2C2_SMBA/USART3_CK/TIM1_BKIN/CAN2_RX/OTG_HS_ULPI_D5/ETH_RMII_TXD0/ETH_MII_TXD0/OTG_HS_ID (io), 74 PB13/SPI2_SCK/I2S2_SCK/USART3_CTS/TIM1_CH1N/CAN2_TX/OTG_HS_ULPI_D6/ETH_RMII_TXD1/ETH_MII_TXD1<>OTG_HS_  VBUS (io), 75 PB14/SPI2_MISO/TIM1_CH2N/TIM12_CH1/OTG_HS_DM/USART3_RTS/TIM8_CH2N (io), 76 PB15/SPI2_MOSI/I2S2_SD/TIM1_CH3N/TIM8_CH3N/TIM12_CH2/OTG_HS_DP/RTC_50Hz (io), 77 PD8/FSMC_D13/USART3_TX (io), 78 PD9/FSMC_D14/USART3_RX (io), 79 PD10/FSMC_D15/USART3_CK (io), 80 PD11/FSMC_A16/USART3_CTS (io), 81 PD12/FSMC_A17/TIM4_CH1/USART3_RTS (io), 82 PD13/FSMC_A18/TIM4_CH2 (io), 83 VSS_8 (power), 84 VDD_8 (power), 85 PD14/FSMC_D0/TIM4_CH3 (io), 86 PD15/FSMC_D1/TIM4_CH4 (io), 87 PG2/FSMC_A12 (io), 88 PG3/FSMC_A13 (io), 89 PG4/FSMC_A14 (io), 90 PG5/FSMC_A15 (io), 91 PG6/FSMC_INT2 (io), 92 PG7/FSMC_INT3/USART6_CK (io), 93 PG8/USART6_RTS/ETH_PPS_OUT (io), 94 VSS_9 (power), 95 VDD_9 (power), 96 PC6/SPI2_MCK/TIM8_CH1/SDIO_D6/USART6_TX/DCMI_D0/TIM3_CH1 (io), 97 PC7/SPI3_MCK/TIM8_CH2/SDIO_D7/USART6_RX/DCMI_D1/TIM3_CH2 (io), 98 PC8/TIM8_CH3/SDIO_D0/TIM3_CH3/USART6_CK/DCMI_D2 (io), 99 PC9/I2S2_CKIN/I2S3_CKIN/MCO2/TIM8_CH4/SDIO_D1/I2C3_SDA/DCMI_D3/TIM3_CH4 (io), 100 PA8/MCO1/USART1_CK/TIM1_CH1/I2C3_SCL/OTG_FS_SOF (io), 101 PA9/USART1_TX/TIM1_CH2/I2C3_SMBA/DCMI_D0<>OTG_FS_  VBUS (io), 102 PA10/USART1_RX/TIM1_CH3/OTG_FS_ID/DCMI_D1 (io), 103 PA11/USART1_CTS/CAN1_RX/TIM1_CH4/OTG_FS_DM (io), 104 PA12/USART1_RTS/CAN1_TX/TIM1_ETR/OTG_FS_DP (io), 105 PA13/JTMS-SWDIO (io), 106 PA14/JTCK-SWCLK (io), 106 VCAP_2 (power), 107 PA15/JTDI/SPI3_NSS/I2S3_WS/TIM2_CH1_ETR/SPI1_NSS (io), 107 VSS_2 (power), 108 VDD_2 (power), 111 PC10/SPI3_SCK/I2S3_SCK/UART4_TX/SDIO_D2/DCMI_D8/USART3_TX (io), 112 PC11/UART4_RX/ SPI3_MISO/SDIO_D3/DCMI_D4/USART3_RX (io), 113 PC12/UART5_TX/SDIO_CK/DCMI_D9/SPI3_MOSI/I2S3_SD/USART3_CK (io), 114 PD0/FSMC_D2/CAN1_RX (io), 115 PD1/FSMC_D3/CAN1_TX (io), 116 PD2/TIM3_ETR/UART5_RX/SDIO_CMD/DCMI_D11 (io), 117 PD3/FSMC_CLK/USART2_CTS (io), 118 PD4/FSMC_NOE/USART2_RTS (io), 119 PD5/FSMC_NWE/USART2_TX (io), 120 VSS_10 (power), 121 VDD_10 (power), 122 PD6/FSMC_NWAIT/USART2_RX (io), 123 PD7/USART2_CK/FSMC_NE1/FSMC_NCE2 (io), 124 PG9/USART6_RX/FSMC_NE2/FSMC_NCE3 (io), 125 PG10/FSMC_NCE4_1/FSMC_NE3 (io), 126 PG11/FSMC_NCE4_2/ETH_MII_TX_EN (io), 127 PG12/FSMC_NE4/USART6_RTS (io), 128 PG13/FSMC_A24/USART6_CTS/ETH_MII_TXD0/ETH_RMII  _TXD0 (io), 129 PG14/FSMC_A25/USART6_TX/ETH_MII_TXD1/ETH_RMII_TXD1 (io), 130 VSS_11 (power), 131 VDD_11 (power), 132 PG15/USART6_CTS/DCMI_D13 (io), 133 PB3/JTDO/ TRACESWO/SPI3_SCK/I2S3_SCK/TIM2_CH2/SPI1_SCK (io), 134 PB4/NJTRST/SPI3_MISO/TIM3_CH1/SPI1_MISO (io), 135 PB5/I2C1_SMBA/CAN2_RX/OTG_HS_ULPI_D7/ETH_PPS_OUT/TIM3_CH2/SPI1_MOSI/SPI3_MOSI/DCMI_D10/I2S3_SD (io), 136 PB6/I2C1_SCL/TIM4_CH1/CAN2_TX/OTG_FS_INTN/DCMI_D5/USART1_TX (io), 137 PB7/I2C1_SDA/FSMC_NL/DCMI_VSYNC/USART1_RX/TIM4_CH2 (io), 138 BOOT0<>VPP (in), 139 PB8/TIM4_CH3/SDIO_D4/TIM10_CH1/DCMI_D6/OTG_FS_SCL/ETH_MII_TXD3/I2C1_SCL/CAN1_RX (io), 140 PB9/SPI2_NSS/I2S2_WS/TIM4_CH4/TIM11_CH1/OTG_FS_SDA/SDIO_D5/DCMI_D7/I2C1_SDA/CAN1_TX (io), 141 PE0/TIM4_ETR/FSMC_NBL0/DCMI_D2 (io), 142 PE1/FSMC_NBL1/DCMI_D3 (io), 143 NC/PDR_ON (power), 144 VDD_3 (power)

## SW-3
designator S?
footprint SW-3
pins: 2 0, 3 1

## SW_BAT
designator S?

## TDA2822
designator *
pins: 1, 2, 3, 4, 5, 6, 7, 8

## TF
designator T?
footprint TF CARD
pins: 1 D2, 2 D3, 3 CMD, 4 3V3, 5 CLK, 6 GND, 7 D0, 8 D1, 9 FreQ
text: TF Card; Micro SD

## TFT-2.8
designator TFT?
pins: 1 VCC, 2 GND, 3 DB0, 4 DB1, 5 DB2, 6 DB3, 7 DB4, 8 DB5, 9 DB6, 10 DB7, 11 DB8, 12 DB9, 13 DB10, 14 DB11, 15 DB12, 16 DB13, 17 DB14, 18 DB15, 19 CS, 20 RS, 21 WR, 22 RD, 23 RST, 24 TP_IRQ, 25 TP_SO, 26 TP_SCK, 27 TP_SI, 28 TP_CS

## TJA1040/1050
designator U?, comment TJA1050
footprint SOP-8
pins: 1 TX, 2 GND, 3 VCC, 4 RX, 5 SPLIT, 6 CANL, 7 CANH, 8 STB

## TL431IDBZR
designator U?
footprint SOT-23-3
pins: 1 REF, 2 CATHODE(-), 3 ANODE(+)

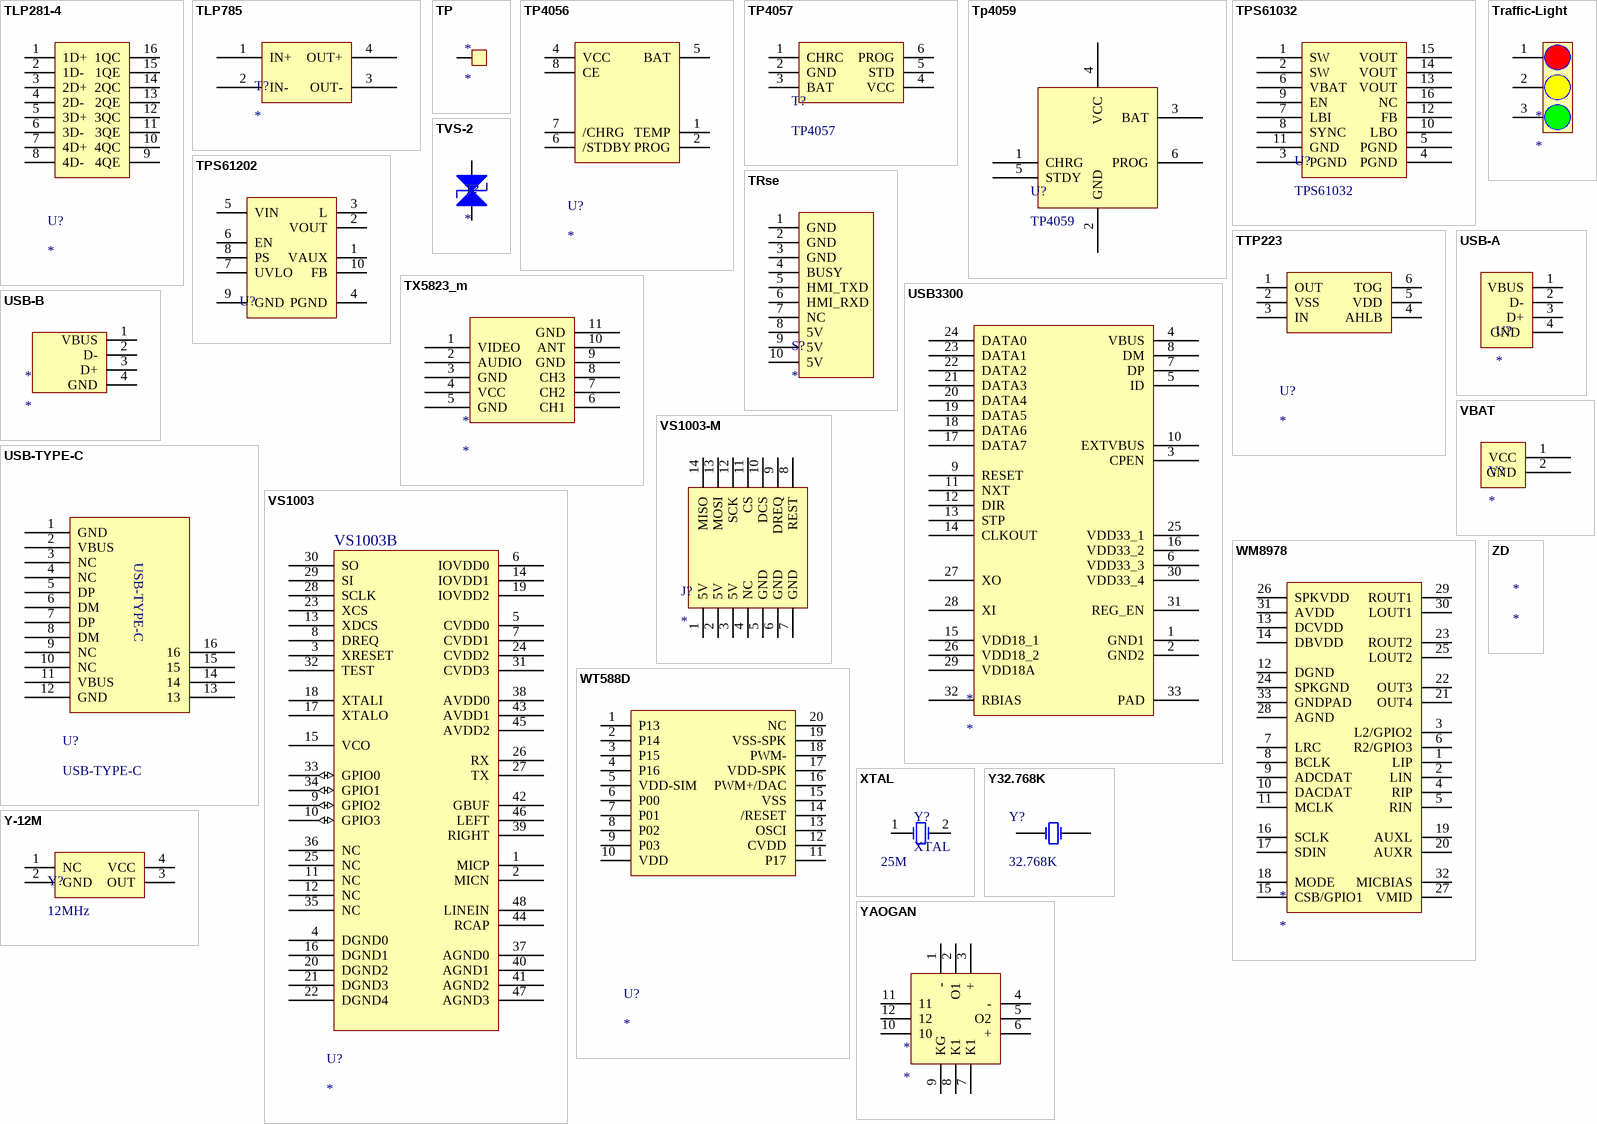
[diagram p10: symbols TLP281-4 to ZD]

## TLP281-4
designator U?
footprint SOP-16 (Footprint not found)
pins: 1 1D+, 2 1D-, 3 2D+, 4 2D-, 5 3D+, 6 3D-, 7 4D+, 8 4D-, 9 4QE, 10 4QC, 11 3QE, 12 3QC, 13 2QE, 14 2QC, 15 1QE, 16 1QC

## TLP785
designator T?
footprint LC-SMD-4
pins: 1 IN+, 2 IN-, 3 OUT-, 4 OUT+

## TP
designator *
pins: 1 R

## TP4056
designator U?
footprint SOP-8
pins: 1 TEMP, 2 PROG, 3 GND hidden to GND, 4 VCC, 5 BAT, 6 /STDBY, 7 /CHRG, 8 CE

## TP4057
designator T?
footprint SOT23-6
pins: 1 CHRC, 2 GND, 3 BAT, 4 VCC, 5 STD, 6 PROG

## Tp4059
designator U?, comment TP4059
pins: 1 CHRG, 2 GND, 3 BAT, 4 VCC, 5 STDY, 6 PROG

## TPS61032
designator U?
footprint SSOP16
pins: 0 hidden to GND, 1 SW, 2 SW, 3 PGND, 4 PGND, 5 PGND, 6 VBAT, 7 LBI, 8 SYNC, 9 EN, 10 LBO, 11 GND, 12 FB, 13 VOUT, 14 VOUT, 15 VOUT, 16 NC

## TPS61202
designator U?  (value not drawn)
footprint QFN10 (Footprint not found)
footprint QFN-10 (Footprint not found)
pins: 0 hidden to GND, 1 VAUX, 2 VOUT, 3 L, 4 PGND, 5 VIN, 6 EN, 7 UVLO, 8 PS, 9 GND, 10 FB

## Traffic-Light
designator *
pins: 1, 2, 3

## TRse
designator S?
footprint PASTE_10CON
pins: 1 GND, 2 GND, 3 GND, 4 BUSY, 5 HMI_TXD, 6 HMI_RXD, 7 NC, 8 5V, 9 5V, 10 5V

## TTP223
designator U?
footprint SOT23-6
pins: 1 OUT, 2 VSS, 3 IN, 4 AHLB, 5 VDD, 6 TOG

## TVS-2
designator T?
footprint 1N5822
pins: 1, 2

## TX5823_m
designator *
pins: 1 VIDEO, 2 AUDIO, 3 GND, 4 VCC, 5 GND, 6 CH1, 7 CH2, 8 CH3, 9 GND, 10 ANT, 11 GND

## USB3300
designator *
pins: 1 GND1, 2 GND2, 3 CPEN, 4 VBUS, 5 ID, 6 VDD33_3, 7 DP, 8 DM, 9 RESET, 10 EXTVBUS, 11 NXT, 12 DIR, 13 STP, 14 CLKOUT, 15 VDD18_1, 16 VDD33_2, 17 DATA7, 18 DATA6, 19 DATA5, 20 DATA4, 21 DATA3, 22 DATA2, 23 DATA1, 24 DATA0, 25 VDD33_1, 26 VDD18_2, 27 XO, 28 XI, 29 VDD18A, 30 VDD33_4, 31 REG_EN, 32 RBIAS, 33 PAD

## USB-A
designator U?
pins: 1 VBUS, 2 D-, 3 D+, 4 GND 

## USB-B
designator *
footprint USB-B
pins: 1 VBUS, 2 D-, 3 D+, 4 GND

## USB-TYPE-C
designator U?
pins: 1 GND, 2 VBUS, 3 NC, 4 NC, 5 DP, 6 DM, 7 DP, 8 DM, 9 NC, 10 NC, 11 VBUS, 12 GND, 13, 14, 15, 16

## VBAT
designator V?
footprint HEAD2
pins: 1 VCC, 2 GND

## VS1003
designator U?
footprint VS1003B
pins: 1 MICP, 2 MICN, 3 XRESET, 4 DGND0 (power), 5 CVDD0 (power), 6 IOVDD0 (power), 7 CVDD1 (power), 8 DREQ, 9 GPIO2 (io), 10 GPIO3 (io), 11 NC (oe), 12 NC (oe), 13 XDCS, 14 IOVDD1 (power), 15 VCO (oe), 16 DGND1 (power), 17 XTALO, 18 XTALI, 19 IOVDD2 (power), 20 DGND2 (power), 21 DGND3 (power), 22 DGND4 (power), 23 XCS, 24 CVDD2 (power), 25 NC (oe), 26 RX, 27 TX, 28 SCLK, 29 SI, 30 SO, 31 CVDD3 (power), 32 TEST, 33 GPIO0 (io), 34 GPIO1 (io), 35 NC (oe), 36 NC (oe), 37 AGND0 (power), 38 AVDD0 (power), 39 RIGHT, 40 AGND1 (power), 41 AGND2 (power), 42 GBUF, 43 AVDD1 (power), 44 RCAP, 45 AVDD2 (power), 46 LEFT, 47 AGND3 (power), 48 LINEIN
text: VS1003B

## VS1003-M
designator J?
pins: 1 5V, 2 5V, 3 5V, 4 NC, 5 GND, 6 GND, 7 GND, 8 REST, 9 DREQ, 10 DCS, 11 CS, 12 SCK, 13 MOSI, 14 MISO